# Altium schematic symbol library Microcontrollers.SchLib: 33 symbols (part 1 of 2)
Pins are listed as number, name and electrical type; pins without a type are passive.

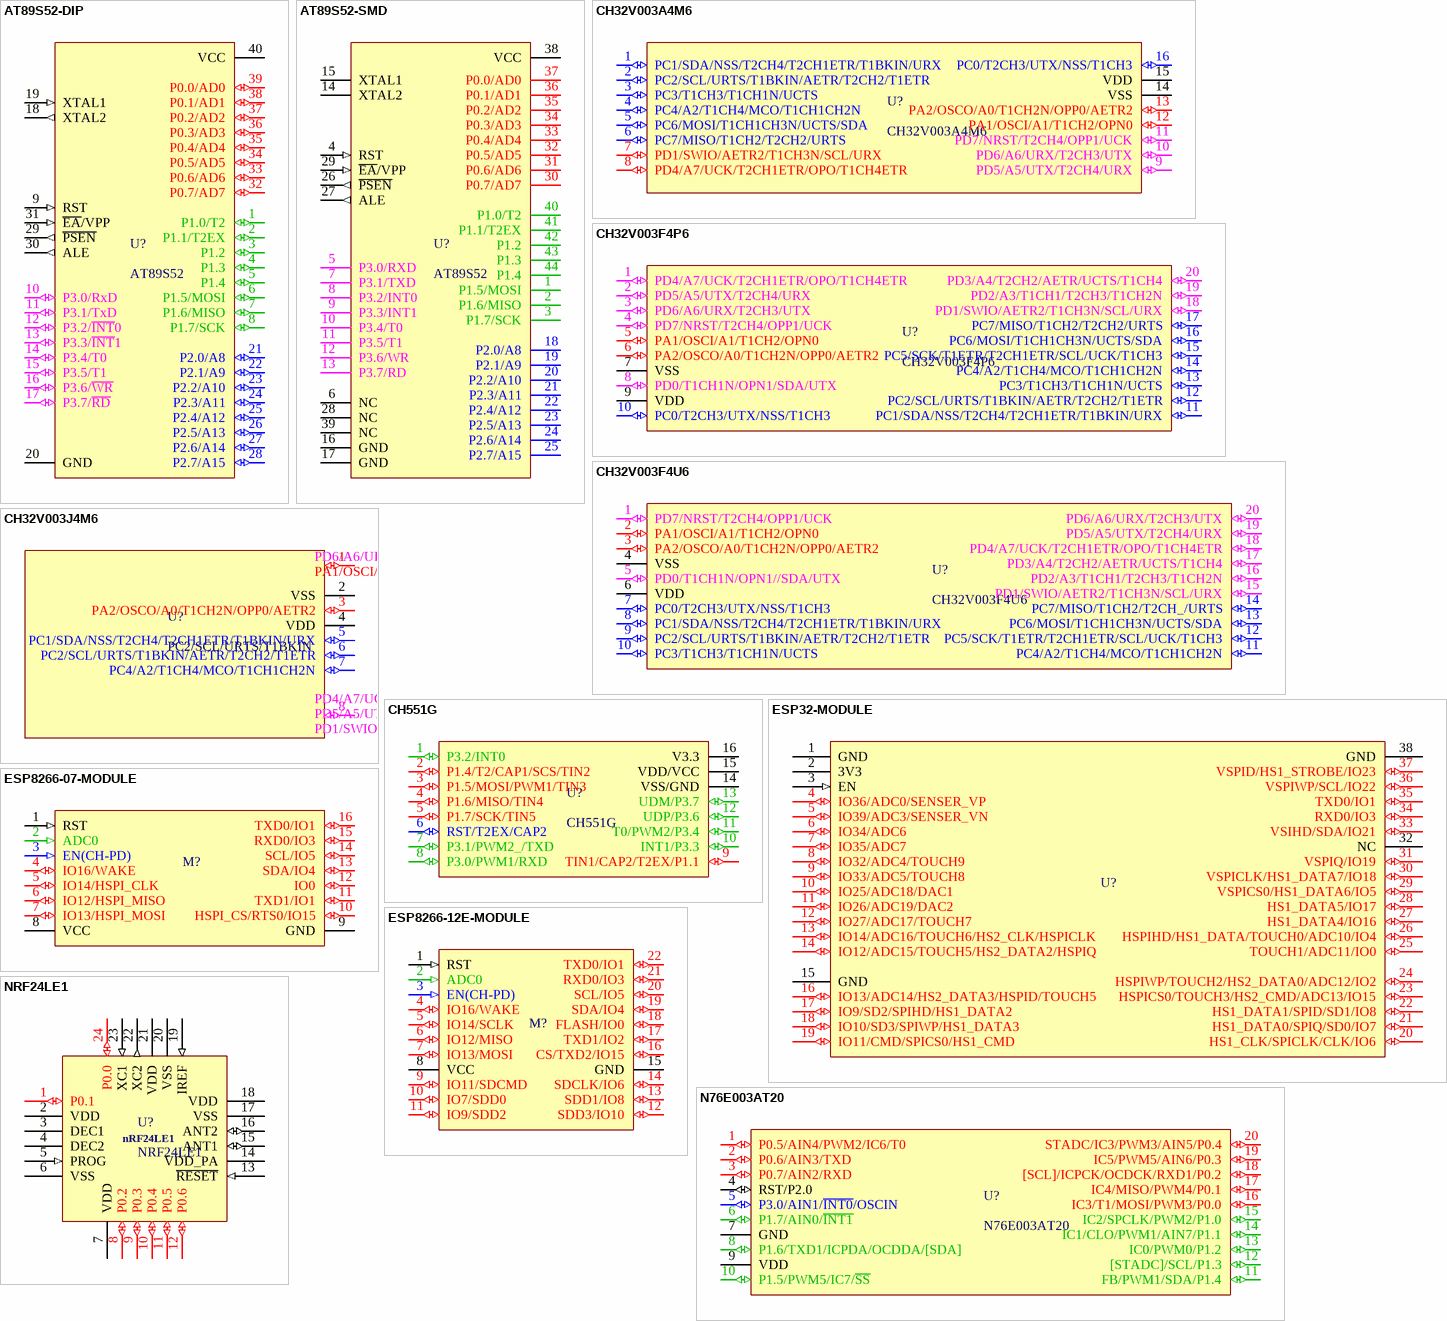
[diagram p0: symbols AT89S52-DIP to NRF24LE1]

## AT89S52-DIP
designator U?, comment AT89S52
footprint DIP-40
pins: 1 P1.0/T2 (io), 2 P1.1/T2EX (io), 3 P1.2 (io), 4 P1.3 (io), 5 P1.4 (io), 6 P1.5/MOSI (io), 7 P1.6/MISO (io), 8 P1.7/SCK (io), 9 RST (in), 10 P3.0/RxD (io), 11 P3.1/TxD (io), 12 P3.2/~{INT}0 (io), 13 P3.3/~{INT}1 (io), 14 P3.4/T0 (io), 15 P3.5/T1 (io), 16 P3.6/~{WR} (io), 17 P3.7/~{RD} (io), 18 XTAL2 (out), 19 XTAL1 (in), 20 GND (power), 21 P2.0/A8 (io), 22 P2.1/A9 (io), 23 P2.2/A10 (io), 24 P2.3/A11 (io), 25 P2.4/A12 (io), 26 P2.5/A13 (io), 27 P2.6/A14 (io), 28 P2.7/A15 (io), 29 ~{PSEN} (out), 30 ALE (out), 31 ~{EA}/VPP (in), 32 P0.7/AD7 (io), 33 P0.6/AD6 (io), 34 P0.5/AD5 (io), 35 P0.4/AD4 (io), 36 P0.3/AD3 (io), 37 P0.2/AD2 (io), 38 P0.1/AD1 (io), 39 P0.0/AD0 (io), 40 VCC (power)

## AT89S52-SMD
designator U?, comment AT89S52
footprint TQFP-44
pins: 1 P1.5/MOSI, 2 P1.6/MISO, 3 P1.7/SCK, 4 RST (in), 5 P3.0/RXD, 6 NC, 7 P3.1/TXD, 8 P3.2/INT0, 9 P3.3/INT1, 10 P3.4/T0, 11 P3.5/T1, 12 P3.6/WR, 13 P3.7/RD, 14 XTAL2, 15 XTAL1, 16 GND, 17 GND (power), 18 P2.0/A8, 19 P2.1/A9, 20 P2.2/A10, 21 P2.3/A11, 22 P2.4/A12, 23 P2.5/A13, 24 P2.6/A14, 25 P2.7/A15, 26 ~{PSEN} (out), 27 ALE (out), 28 NC, 29 ~{EA}/VPP (in), 30 P0.7/AD7, 31 P0.6/AD6, 32 P0.5/AD5, 33 P0.4/AD4, 34 P0.3/AD3, 35 P0.2/AD2, 36 P0.1/AD1, 37 P0.0/AD0, 38 VCC (power), 39 NC, 40 P1.0/T2, 41 P1.1/T2EX, 42 P1.2, 43 P1.3, 44 P1.4

## CH32V003A4M6
designator U?
footprint SOP-16
pins: 1 PC1/SDA/NSS/T2CH4/T2CH1ETR/T1BKIN/URX (io), 2 PC2/SCL/URTS/T1BKIN/AETR/T2CH2/T1ETR (io), 3 PC3/T1CH3/T1CH1N/UCTS (io), 4 PC4/A2/T1CH4/MCO/T1CH1CH2N (io), 5 PC6/MOSI/T1CH1CH3N/UCTS/SDA (io), 6 PC7/MISO/T1CH2/T2CH2/URTS (io), 7 PD1/SWIO/AETR2/T1CH3N/SCL/URX (io), 8 PD4/A7/UCK/T2CH1ETR/OPO/T1CH4ETR (io), 9 PD5/A5/UTX/T2CH4/URX (io), 10 PD6/A6/URX/T2CH3/UTX (io), 11 PD7/NRST/T2CH4/OPP1/UCK (io), 12 PA1/OSCI/A1/T1CH2/OPN0 (io), 13 PA2/OSCO/A0/T1CH2N/OPP0/AETR2 (io), 14 VSS (power), 15 VDD (power), 16 PC0/T2CH3/UTX/NSS/T1CH3 (io)

## CH32V003F4P6
designator U?
footprint SSOP-20
pins: 1 PD4/A7/UCK/T2CH1ETR/OPO/T1CH4ETR (io), 2 PD5/A5/UTX/T2CH4/URX (io), 3 PD6/A6/URX/T2CH3/UTX (io), 4 PD7/NRST/T2CH4/OPP1/UCK (io), 5 PA1/OSCI/A1/T1CH2/OPN0 (io), 6 PA2/OSCO/A0/T1CH2N/OPP0/AETR2 (io), 7 VSS (power), 8 PD0/T1CH1N/OPN1/SDA/UTX (io), 9 VDD (power), 10 PC0/T2CH3/UTX/NSS/T1CH3 (io), 11 PC1/SDA/NSS/T2CH4/T2CH1ETR/T1BKIN/URX (io), 12 PC2/SCL/URTS/T1BKIN/AETR/T2CH2/T1ETR (io), 13 PC3/T1CH3/T1CH1N/UCTS (io), 14 PC4/A2/T1CH4/MCO/T1CH1CH2N (io), 15 PC5/SCK/T1ETR/T2CH1ETR/SCL/UCK/T1CH3 (io), 16 PC6/MOSI/T1CH1CH3N/UCTS/SDA (io), 17 PC7/MISO/T1CH2/T2CH2/URTS (io), 18 PD1/SWIO/AETR2/T1CH3N/SCL/URX (io), 19 PD2/A3/T1CH1/T2CH3/T1CH2N (io), 20 PD3/A4/T2CH2/AETR/UCTS/T1CH4 (io)

## CH32V003F4U6
designator U?
pins: 1 PD7/NRST/T2CH4/OPP1/UCK (io), 2 PA1/OSCI/A1/T1CH2/OPN0 (io), 3 PA2/OSCO/A0/T1CH2N/OPP0/AETR2 (io), 4 VSS (power), 5 PD0/T1CH1N/OPN1//SDA/UTX (io), 6 VDD (power), 7 PC0/T2CH3/UTX/NSS/T1CH3 (io), 8 PC1/SDA/NSS/T2CH4/T2CH1ETR/T1BKIN/URX (io), 9 PC2/SCL/URTS/T1BKIN/AETR/T2CH2/T1ETR (io), 10 PC3/T1CH3/T1CH1N/UCTS (io), 11 PC4/A2/T1CH4/MCO/T1CH1CH2N (io), 12 PC5/SCK/T1ETR/T2CH1ETR/SCL/UCK/T1CH3 (io), 13 PC6/MOSI/T1CH1CH3N/UCTS/SDA (io), 14 PC7/MISO/T1CH2/T2CH_/URTS (io), 15 PD1/SWIO/AETR2/T1CH3N/SCL/URX (io), 16 PD2/A3/T1CH1/T2CH3/T1CH2N (io), 17 PD3/A4/T2CH2/AETR/UCTS/T1CH4 (io), 18 PD4/A7/UCK/T2CH1ETR/OPO/T1CH4ETR (io), 19 PD5/A5/UTX/T2CH4/URX (io), 20 PD6/A6/URX/T2CH3/UTX (io)

## CH32V003J4M6
designator U?, comment PC2/SCL/URTS/T1BKIN
footprint SOP-8
pins: 1 (io), 2 VSS (power), 3 PA2/OSCO/A0/T1CH2N/OPP0/AETR2 (io), 4 VDD (power), 5 PC1/SDA/NSS/T2CH4/T2CH1ETR/T1BKIN/URX (io), 6 PC2/SCL/URTS/T1BKIN/AETR/T2CH2/T1ETR (io), 7 PC4/A2/T1CH4/MCO/T1CH1CH2N (io), 8 (io)
text: PD6/A6/URX/T2CH3/UTX; PA1/OSCI/A1/T1CH2/OPN0; PD4/A7/UCK/T2CH1ETR/OPO/T1CH4ETR; PD5/A5/UTX/T2CH4/URX; PD1/SWIO/AETR2/T1CH3N/SCL/URX

## CH551G
designator U?
footprint SOP-16
pins: 1 P3.2/INT0 (io), 2 P1.4/T2/CAP1/SCS/TIN2 (io), 3 P1.5/MOSI/PWM1/TIN3 (io), 4 P1.6/MISO/TIN4 (io), 5 P1.7/SCK/TIN5  (io), 6 RST/T2EX/CAP2 (io), 7 P3.1/PWM2_/TXD (io), 8 P3.0/PWM1/RXD (io), 9 TIN1/CAP2/T2EX/P1.1 (io), 10 INT1/P3.3 (io), 11 T0/PWM2/P3.4 (io), 12 UDP/P3.6 (io), 13 UDM/P3.7 (io), 14 VSS/GND (power), 15 VDD/VCC (power), 16 V3.3 (power)

## ESP32-MODULE
designator U?, comment ESP32  (value not drawn)
footprint ESP32-MODULE
pins: 1 GND (power), 2 3V3 (power), 3 EN (in), 4 IO36/ADC0/SENSER_VP (io), 5 IO39/ADC3/SENSER_VN (io), 6 IO34/ADC6 (io), 7 IO35/ADC7 (io), 8 IO32/ADC4/TOUCH9 (io), 9 IO33/ADC5/TOUCH8 (io), 10 IO25/ADC18/DAC1 (io), 11 IO26/ADC19/DAC2 (io), 12 IO27/ADC17/TOUCH7 (io), 13 IO14/ADC16/TOUCH6/HS2_CLK/HSPICLK (io), 14 IO12/ADC15/TOUCH5/HS2_DATA2/HSPIQ (io), 15 GND (power), 16 IO13/ADC14/HS2_DATA3/HSPID/TOUCH5 (io), 17 IO9/SD2/SPIHD/HS1_DATA2 (io), 18 IO10/SD3/SPIWP/HS1_DATA3 (io), 19 IO11/CMD/SPICS0/HS1_CMD (io), 20 HS1_CLK/SPICLK/CLK/IO6 (io), 21 HS1_DATA0/SPIQ/SD0/IO7 (io), 22 HS1_DATA1/SPID/SD1/IO8 (io), 23 HSPICS0/TOUCH3/HS2_CMD/ADC13/IO15 (io), 24 HSPIWP/TOUCH2/HS2_DATA0/ADC12/IO2 (io), 25 TOUCH1/ADC11/IO0 (io), 26 HSPIHD/HS1_DATA/TOUCH0/ADC10/IO4 (io), 27 HS1_DATA4/IO16 (io), 28 HS1_DATA5/IO17 (io), 29 VSPICS0/HS1_DATA6/IO5 (io), 30 VSPICLK/HS1_DATA7/IO18 (io), 31 VSPIQ/IO19 (io), 32 NC, 33 VSIHD/SDA/IO21 (io), 34 RXD0/IO3 (io), 35 TXD0/IO1 (io), 36 VSPIWP/SCL/IO22 (io), 37 VSPID/HS1_STROBE/IO23 (io), 38 GND (power)

## ESP8266-07-MODULE
designator M?, comment ESP8266-07  (value not drawn)
footprint ESP8266-07-MODULE
pins: 1 RST (in), 2 ADC0 (in), 3 EN(CH-PD) (in), 4 IO16/WAKE (io), 5 IO14/HSPI_CLK (io), 6 IO12/HSPI_MISO (io), 7 IO13/HSPI_MOSI (io), 8 VCC (power), 9 GND (power), 10 HSPI_CS/RTS0/IO15 (io), 11 TXD1/IO1 (io), 12 IO0 (io), 13 SDA/IO4 (io), 14 SCL/IO5 (io), 15 RXD0/IO3 (io), 16 TXD0/IO1 (io)

## ESP8266-12E-MODULE
designator M?, comment ESP8266-12E  (value not drawn)
footprint ESP8266-12E-MODULE
pins: 1 RST (in), 2 ADC0 (in), 3 EN(CH-PD) (in), 4 IO16/WAKE (io), 5 IO14/SCLK (io), 6 IO12/MISO (io), 7 IO13/MOSI (io), 8 VCC (power), 9 IO11/SDCMD (io), 10 IO7/SDD0 (io), 11 IO9/SDD2 (io), 12 SDD3/IO10 (io), 13 SDD1/IO8 (io), 14 SDCLK/IO6 (io), 15 GND (power), 16 CS/TXD2/IO15 (io), 17 TXD1/IO2 (io), 18 FLASH/IO0 (io), 19 SDA/IO4 (io), 20 SCL/IO5 (io), 21 RXD0/IO3 (io), 22 TXD0/IO1 (io)

## N76E003AT20
designator U?
Mounting_Type: Surface_Mount; SAPO_CODE: 530680; SAPO_NAME: Nuvoton N76E003AT20 SSOP20; Value: N76E003AT20
footprint SSOP-20
pins: 1 P0.5/AIN4/PWM2/IC6/T0 (io), 2 P0.6/AIN3/TXD (io), 3 P0.7/AIN2/RXD (io), 4 RST/P2.0 (io), 5 P3.0/AIN1/~{INT0}/OSCIN (io), 6 P1.7/AIN0/~{INT1} (io), 7 GND (power), 8 P1.6/TXD1/ICPDA/OCDDA/[SDA] (io), 9 VDD (power), 10 P1.5/PWM5/IC7/~{SS} (io), 11 FB/PWM1/SDA/P1.4 (io), 12 [STADC]/SCL/P1.3 (io), 13 IC0/PWM0/P1.2 (io), 14 IC1/CLO/PWM1/AIN7/P1.1 (io), 15 IC2/SPCLK/PWM2/P1.0 (io), 16 IC3/T1/MOSI/PWM3/P0.0 (io), 17 IC4/MISO/PWM4/P0.1 (io), 18 [SCL]/ICPCK/OCDCK/RXD1/P0.2 (io), 19 IC5/PWM5/AIN6/P0.3 (io), 20 STADC/IC3/PWM3/AIN5/P0.4 (io)

## NRF24LE1
designator U?
footprint QFN-24
pins: 1 P0.1 (io), 2 VDD (power), 3 DEC1, 4 DEC2, 5 PROG (in), 6 VSS (power), 7 VDD (power), 8 P0.2 (io), 9 P0.3 (io), 10 P0.4 (io), 11 P0.5 (io), 12 P0.6 (io), 13 ~{RESET} (in), 14 VDD_PA (power), 15 ANT1 (io), 16 ANT2 (io), 17 VSS (power), 18 VDD (power), 19 IREF (in), 20 VSS, 21 VDD (power), 22 XC2 (out), 23 XC1 (in), 24 P0.0 (io)
text: nRF24LE1

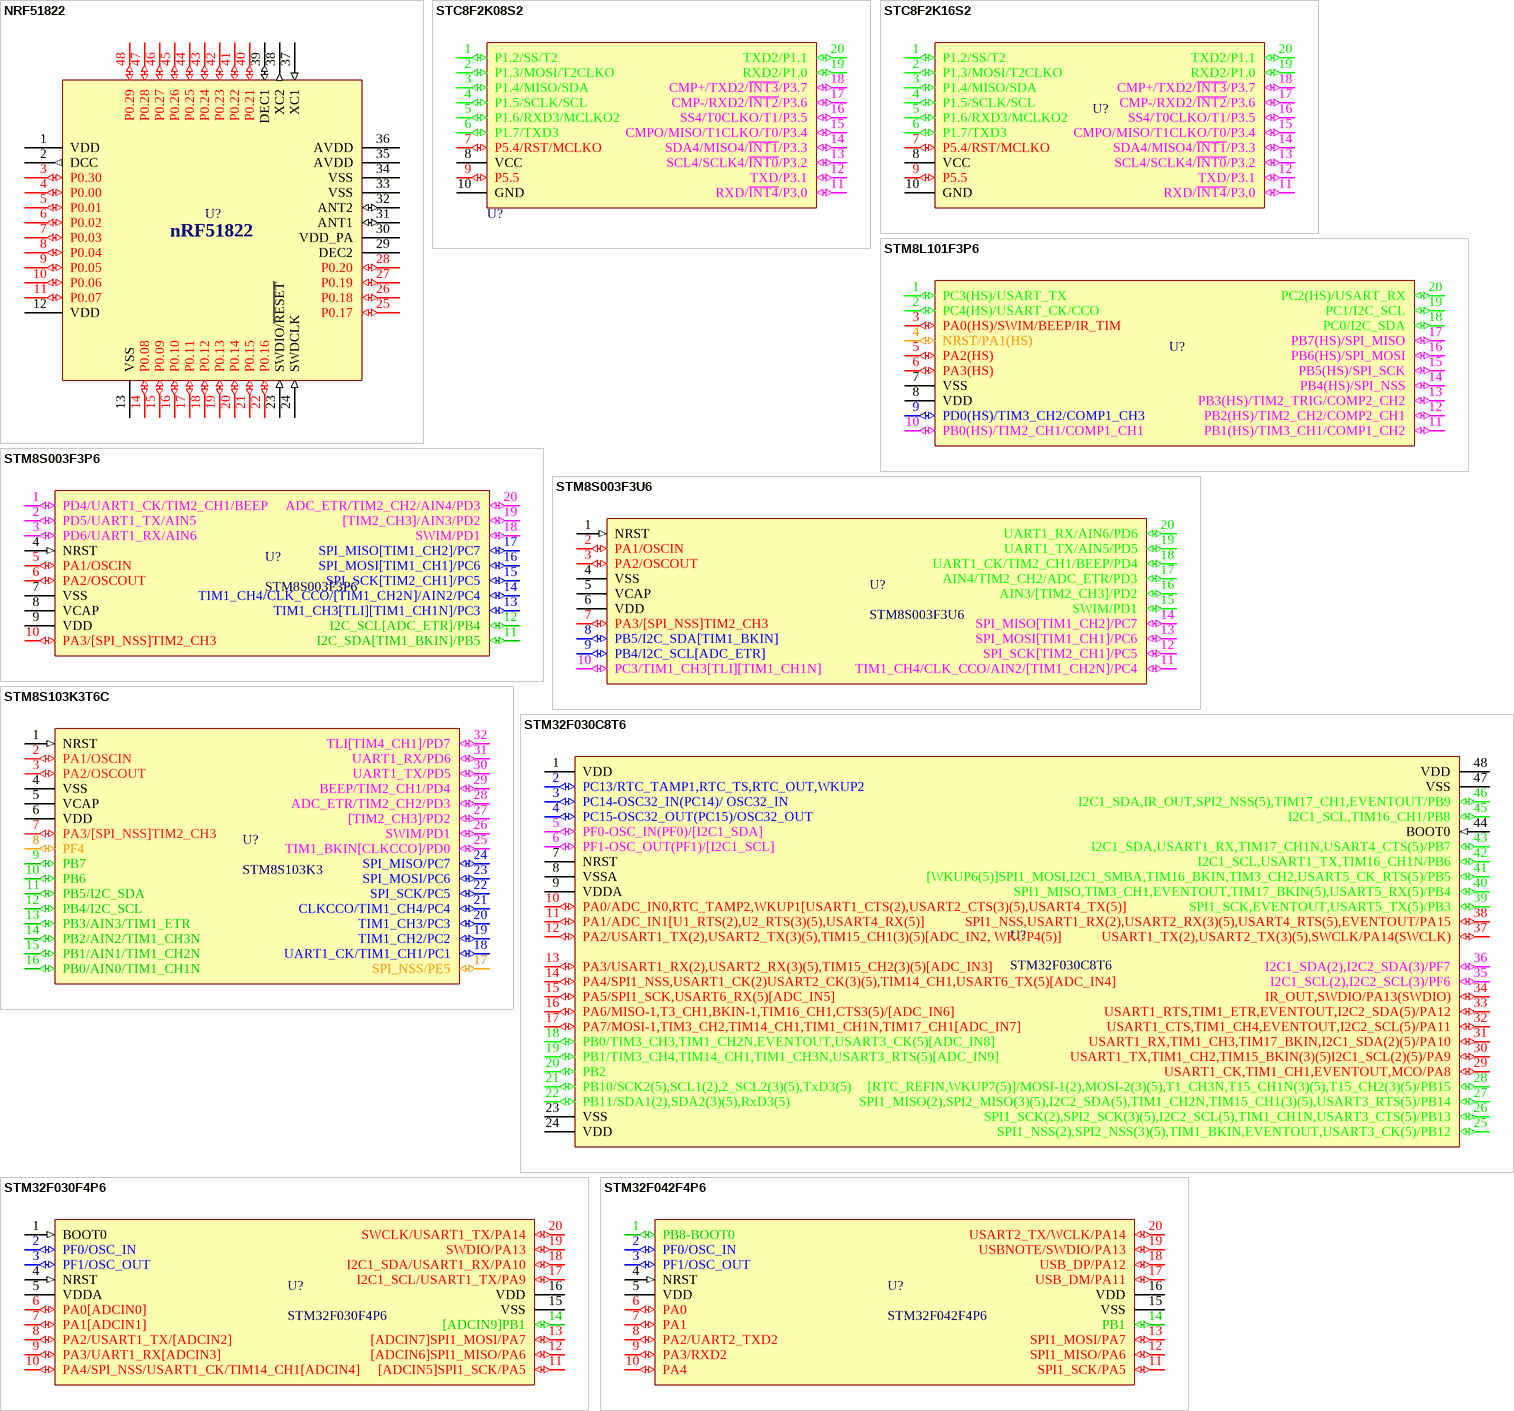
[diagram p1: symbols NRF51822 to STM32F042F4P6]

## NRF51822
designator U?  (value not drawn)
footprint QFN-48
pins: 1 VDD (power), 2 DCC (out), 3 P0.30 (io), 4 P0.00 (io), 5 P0.01 (io), 6 P0.02 (io), 7 P0.03 (io), 8 P0.04 (io), 9 P0.05 (io), 10 P0.06 (io), 11 P0.07 (io), 12 VDD (power), 13 VSS, 14 P0.08 (io), 15 P0.09 (io), 16 P0.10 (io), 17 P0.11 (io), 18 P0.12 (io), 19 P0.13 (io), 20 P0.14 (io), 21 P0.15 (io), 22 P0.16 (io), 23 SWDIO/~{RESET} (in), 24 SWDCLK (in), 25 P0.17 (io), 26 P0.18 (io), 27 P0.19 (io), 28 P0.20 (io), 29 DEC2, 30 VDD_PA (power), 31 ANT1 (io), 32 ANT2 (io), 33 VSS (power), 34 VSS (power), 35 AVDD (power), 36 AVDD (power), 37 XC1 (in), 38 XC2 (out), 39 DEC1 (io), 40 P0.21 (io), 41 P0.22 (io), 42 P0.23 (io), 43 P0.24 (io), 44 P0.25 (io), 45 P0.26 (io), 46 P0.27 (io), 47 P0.28 (io), 48 P0.29 (io)
text: nRF51822

## STC8F2K08S2
designator U?  (value not drawn)
Mounting_Type: Surface_Mount; Price: *; Processing Cost: *; SAPO_NAME: *; SAPO_CODE: *; Value: STC8F2K08S2
footprint SSOP-20
pins: 1 P1.2/SS/T2 (io) "GND", 2 P1.3/MOSI/T2CLKO (io) "GND", 3 P1.4/MISO/SDA (io) "GND", 4 P1.5/SCLK/SCL (io) "GND", 5 P1.6/RXD3/MCLKO2 (io) "GND", 6 P1.7/TXD3 (io) "GND", 7 P5.4/RST/MCLKO (io) "GND", 8 VCC (power) "GND", 9 P5.5 (io) "GND", 10 GND (power), 11 RXD/~{INT4}/P3.0 (io) "GND", 12 TXD/P3.1 (io) "GND", 13 SCL4/SCLK4/~{INT0}/P3.2 (io) "GND", 14 SDA4/MISO4/~{INT1}/P3.3 (io) "GND", 15 CMPO/MISO/T1CLKO/T0/P3.4 (io) "GND", 16 SS4/T0CLKO/T1/P3.5 (io) "GND", 17 CMP-/RXD2/~{INT2}/P3.6 (io) "GND", 18 CMP+/TXD2/~{INT3}/P3.7 (io) "GND", 19 RXD2/P1.0 (io) "GND", 20 TXD2/P1.1 (io) "GND"

## STC8F2K16S2
designator U?  (value not drawn)
footprint SSOP-20
pins: 1 P1.2/SS/T2 (io) "GND", 2 P1.3/MOSI/T2CLKO (io) "GND", 3 P1.4/MISO/SDA (io) "GND", 4 P1.5/SCLK/SCL (io) "GND", 5 P1.6/RXD3/MCLKO2 (io) "GND", 6 P1.7/TXD3 (io) "GND", 7 P5.4/RST/MCLKO (io) "GND", 8 VCC (power) "GND", 9 P5.5 (io) "GND", 10 GND (power), 11 RXD/~{INT4}/P3.0 (io) "GND", 12 TXD/P3.1 (io) "GND", 13 SCL4/SCLK4/~{INT0}/P3.2 (io) "GND", 14 SDA4/MISO4/~{INT1}/P3.3 (io) "GND", 15 CMPO/MISO/T1CLKO/T0/P3.4 (io) "GND", 16 SS4/T0CLKO/T1/P3.5 (io) "GND", 17 CMP-/RXD2/~{INT2}/P3.6 (io) "GND", 18 CMP+/TXD2/~{INT3}/P3.7 (io) "GND", 19 RXD2/P1.0 (io) "GND", 20 TXD2/P1.1 (io) "GND"

## STM8L101F3P6
designator U?, comment STM8S101F3P6  (value not drawn)
footprint SSOP-20
pins: 1 PC3(HS)/USART_TX (io), 2 PC4(HS)/USART_CK/CCO (io), 3 PA0(HS)/SWIM/BEEP/IR_TIM (io), 4 NRST/PA1(HS) (io), 5 PA2(HS) (io), 6 PA3(HS) (io), 7 VSS (power), 8 VDD (power), 9 PD0(HS)/TIM3_CH2/COMP1_CH3 (io), 10 PB0(HS)/TIM2_CH1/COMP1_CH1 (io), 11 PB1(HS)/TIM3_CH1/COMP1_CH2 (io), 12 PB2(HS)/TIM2_CH2/COMP2_CH1 (io), 13 PB3(HS)/TIM2_TRIG/COMP2_CH2 (io), 14 PB4(HS)/SPI_NSS (io), 15 PB5(HS)/SPI_SCK (io), 16 PB6(HS)/SPI_MOSI (io), 17 PB7(HS)/SPI_MISO (io), 18 PC0/I2C_SDA (io), 19 PC1/I2C_SCL (io), 20 PC2(HS)/USART_RX (io)

## STM8S003F3P6
designator U?
Mounting_Type: Surface_Mount; SAPO_CODE: 530490; SAPO_NAME: STM8S003F3P6 TSSOP20; Value: STM8S003F3P6
footprint SSOP-20
pins: 1 PD4/UART1_CK/TIM2_CH1/BEEP (io), 2 PD5/UART1_TX/AIN5 (io), 3 PD6/UART1_RX/AIN6 (io), 4 NRST (in), 5 PA1/OSCIN (io), 6 PA2/OSCOUT (io), 7 VSS (power), 8 VCAP (power), 9 VDD (power), 10 PA3/[SPI_NSS]TIM2_CH3 (io), 11 I2C_SDA[TIM1_BKIN]/PB5 (io), 12 I2C_SCL[ADC_ETR]/PB4 (io), 13 TIM1_CH3[TLI][TIM1_CH1N]/PC3 (io), 14 TIM1_CH4/CLK_CCO/[TIM1_CH2N]/AIN2/PC4 (io), 15 SPI_SCK[TIM2_CH1]/PC5 (io), 16 SPI_MOSI[TIM1_CH1]/PC6 (io), 17 SPI_MISO[TIM1_CH2]/PC7 (io), 18 SWIM/PD1 (io), 19 [TIM2_CH3]/AIN3/PD2 (io), 20 ADC_ETR/TIM2_CH2/AIN4/PD3 (io)

## STM8S003F3U6
designator U?
Mounting_Type: Surface_Mount; SAPO_NAME: STM8S003F3U6 QFN20; SAPO_CODE: 530520; Value: STM8S003F3
footprint UFQFPN-20
pins: 1 NRST (in), 2 PA1/OSCIN (io), 3 PA2/OSCOUT (io), 4 VSS (power), 5 VCAP, 6 VDD (power), 7 PA3/[SPI_NSS]TIM2_CH3 (io), 8 PB5/I2C_SDA[TIM1_BKIN] (io), 9 PB4/I2C_SCL[ADC_ETR] (io), 10 PC3/TIM1_CH3[TLI][TIM1_CH1N] (io), 11 TIM1_CH4/CLK_CCO/AIN2/[TIM1_CH2N]/PC4 (io), 12 SPI_SCK[TIM2_CH1]/PC5 (io), 13 SPI_MOSI[TIM1_CH1]/PC6 (io), 14 SPI_MISO[TIM1_CH2]/PC7 (io), 15 SWIM/PD1 (io), 16 AIN3/[TIM2_CH3]/PD2 (io), 17 AIN4/TIM2_CH2/ADC_ETR/PD3 (io), 18 UART1_CK/TIM2_CH1/BEEP/PD4 (io), 19 UART1_TX/AIN5/PD5 (io), 20 UART1_RX/AIN6/PD6 (io)

## STM8S103K3T6C
designator U?, comment STM8S103K3
footprint LQFP-32
pins: 1 NRST (in), 2 PA1/OSCIN (io), 3 PA2/OSCOUT (io), 4 VSS (power), 5 VCAP, 6 VDD (power), 7 PA3/[SPI_NSS]TIM2_CH3 (io), 8 PF4 (io), 9 PB7 (io), 10 PB6 (io), 11 PB5/I2C_SDA (io), 12 PB4/I2C_SCL (io), 13 PB3/AIN3/TIM1_ETR (io), 14 PB2/AIN2/TIM1_CH3N (io), 15 PB1/AIN1/TIM1_CH2N (io), 16 PB0/AIN0/TIM1_CH1N (io), 17 SPI_NSS/PE5 (io), 18 UART1_CK/TIM1_CH1/PC1 (io), 19 TIM1_CH2/PC2 (io), 20 TIM1_CH3/PC3 (io), 21 CLKCCO/TIM1_CH4/PC4 (io), 22 SPI_SCK/PC5 (io), 23 SPI_MOSI/PC6 (io), 24 SPI_MISO/PC7 (io), 25 TIM1_BKIN[CLKCCO]/PD0 (io), 26 SWIM/PD1 (io), 27 [TIM2_CH3]/PD2 (io), 28 ADC_ETR/TIM2_CH2/PD3 (io), 29 BEEP/TIM2_CH1/PD4 (io), 30 UART1_TX/PD5 (io), 31 UART1_RX/PD6 (io), 32 TLI[TIM4_CH1]/PD7 (io)

## STM32F030C8T6
designator U?
Mounting_Type: Surface_Mount; Processing Cost: *; Price: *; SAPO_CODE: *; SAPO_NAME: *; Value: STM32F030C8T6
footprint LQFP-48 (for STM8S105C6T6)
pins: 1 VDD (power), 2 PC13/RTC_TAMP1,RTC_TS,RTC_OUT,WKUP2 (io), 3 PC14-OSC32_IN(PC14)/ OSC32_IN (io), 4 PC15-OSC32_OUT(PC15)/OSC32_OUT (io), 5 PF0-OSC_IN(PF0)/[I2C1_SDA] (io), 6 PF1-OSC_OUT(PF1)/[I2C1_SCL] (io), 7 NRST (power), 8 VSSA (power), 9 VDDA (power), 10 PA0/ADC_IN0,RTC_TAMP2,WKUP1[USART1_CTS(2),USART2_CTS(3)(5),USART4_TX(5)] (io), 11 PA1/ADC_IN1[U1_RTS(2),U2_RTS(3)(5),USART4_RX(5)] (io), 12 PA2/USART1_TX(2),USART2_TX(3)(5),TIM15_CH1(3)(5)[ADC_IN2, WKUP4(5)] (io), 13 PA3/USART1_RX(2),USART2_RX(3)(5),TIM15_CH2(3)(5)[ADC_IN3] (io), 14 PA4/SPI1_NSS,USART1_CK(2)USART2_CK(3)(5),TIM14_CH1,USART6_TX(5)[ADC_IN4] (io), 15 PA5/SPI1_SCK,USART6_RX(5)[ADC_IN5] (io), 16 PA6/MISO-1,T3_CH1,BKIN-1,TIM16_CH1,CTS3(5)/[ADC_IN6] (io), 17 PA7/MOSI-1,TIM3_CH2,TIM14_CH1,TIM1_CH1N,TIM17_CH1[ADC_IN7] (io), 18 PB0/TIM3_CH3,TIM1_CH2N,EVENTOUT,USART3_CK(5)[ADC_IN8] (io), 19 PB1/TIM3_CH4,TIM14_CH1,TIM1_CH3N,USART3_RTS(5)[ADC_IN9] (io), 20 PB2 (io), 21 PB10/SCK2(5),SCL1(2),2_SCL2(3)(5),TxD3(5) (io), 22 PB11/SDA1(2),SDA2(3)(5),RxD3(5) (io), 23 VSS (power), 24 VDD (power), 25 SPI1_NSS(2),SPI2_NSS(3)(5),TIM1_BKIN,EVENTOUT,USART3_CK(5)/PB12 (io), 26 SPI1_SCK(2),SPI2_SCK(3)(5),I2C2_SCL(5),TIM1_CH1N,USART3_CTS(5)/PB13 (io), 27 SPI1_MISO(2),SPI2_MISO(3)(5),I2C2_SDA(5),TIM1_CH2N,TIM15_CH1(3)(5),USART3_RTS(5)/PB14 (io), 28 [RTC_REFIN,WKUP7(5)]/MOSI-1(2),MOSI-2(3)(5),T1_CH3N,T15_CH1N(3)(5),T15_CH2(3)(5)/PB15 (io), 29 USART1_CK,TIM1_CH1,EVENTOUT,MCO/PA8 (io) "Ground (0V)", 30 USART1_TX,TIM1_CH2,TIM15_BKIN(3)(5)I2C1_SCL(2)(5)/PA9 (io) "Ground (0V)", 31 USART1_RX,TIM1_CH3,TIM17_BKIN,I2C1_SDA(2)(5)/PA10 (io) "Ground (0V)", 32 USART1_CTS,TIM1_CH4,EVENTOUT,I2C2_SCL(5)/PA11 (io) "Ground (0V)", 33 USART1_RTS,TIM1_ETR,EVENTOUT,I2C2_SDA(5)/PA12 (io) "Ground (0V)", 34 IR_OUT,SWDIO/PA13(SWDIO) (io) "Ground (0V)", 35 I2C1_SCL(2),I2C2_SCL(3)/PF6 (io) "Ground (0V)", 36 I2C1_SDA(2),I2C2_SDA(3)/PF7 (io) "Ground (0V)", 37 USART1_TX(2),USART2_TX(3)(5),SWCLK/PA14(SWCLK) (io) "Ground (0V)", 38 SPI1_NSS,USART1_RX(2),USART2_RX(3)(5),USART4_RTS(5),EVENTOUT/PA15 (io) "Ground (0V)", 39 SPI1_SCK,EVENTOUT,USART5_TX(5)/PB3 (io) "Ground (0V)", 40 SPI1_MISO,TIM3_CH1,EVENTOUT,TIM17_BKIN(5),USART5_RX(5)/PB4 (io) "Ground (0V)", 41 [WKUP6(5)]SPI1_MOSI,I2C1_SMBA,TIM16_BKIN,TIM3_CH2,USART5_CK_RTS(5)/PB5 (io) "Ground (0V)", 42 I2C1_SCL,USART1_TX,TIM16_CH1N/PB6 (io) "Ground (0V)", 43 I2C1_SDA,USART1_RX,TIM17_CH1N,USART4_CTS(5)/PB7 (io) "Ground (0V)", 44 BOOT0 (in) "Ground (0V)", 45 I2C1_SCL,TIM16_CH1/PB8 (io) "Ground (0V)", 46 I2C1_SDA,IR_OUT,SPI2_NSS(5),TIM17_CH1,EVENTOUT/PB9 (io) "Ground (0V)", 47 VSS (power) "Ground (0V)", 48 VDD (power) "Ground (0V)"

## STM32F030F4P6
designator U?
Mounting_Type: Surface_Mount; SAPO_CODE: 530460; SAPO_NAME: STM32F030F4P6 TSSOP20; Value: STM32F030F4P6 TSSOP20; Price: 16000; ComponentLink1Description: linhkienviet; ComponentLink1URL: http://linhkienviet.vn/stm32f030f4p6-tssop20
footprint SSOP-20
pins: 1 BOOT0 (in), 2 PF0/OSC_IN (io), 3 PF1/OSC_OUT (io), 4 NRST (in), 5 VDDA (power), 6 PA0[ADCIN0] (io), 7 PA1[ADCIN1] (io), 8 PA2/USART1_TX/[ADCIN2] (io) "USART1_TX/PA2", 9 PA3/UART1_RX[ADCIN3] (io) "USART2_RX/TIM2_CH4/TSC_G1_IO4", 10 PA4/SPI_NSS/USART1_CK/TIM14_CH1[ADCIN4] (io), 11 [ADCIN5]SPI1_SCK/PA5 (io), 12 [ADCIN6]SPI1_MISO/PA6 (io), 13 [ADCIN7]SPI1_MOSI/PA7 (io), 14 [ADCIN9]PB1 (io) "GND", 15 VSS (power) "GND", 16 VDD (power) "GND", 17 I2C1_SCL/USART1_TX/PA9 (io) "GND", 18 I2C1_SDA/USART1_RX/PA10 (io) "GND", 19 SWDIO/PA13 (io) "GND", 20 SWCLK/USART1_TX/PA14 (io) "USART2_TX/SWCLK"

## STM32F042F4P6
designator U?
SAPO_NAME: STM32F042F4P6 TSSOP20; SAPO_CODE: 530660; Mounting_Type: Surface_Mount; Value: STM32F042F4P6
footprint SSOP-20
pins: 1 PB8-BOOT0 (io), 2 PF0/OSC_IN (io), 3 PF1/OSC_OUT (io), 4 NRST (in), 5 VDD (power), 6 PA0 (io), 7 PA1 (io), 8 PA2/UART2_TXD2 (io), 9 PA3/RXD2 (io), 10 PA4 (io), 11 SPI1_SCK/PA5 (io), 12 SPI1_MISO/PA6 (io), 13 SPI1_MOSI/PA7 (io), 14 PB1 (io), 15 VSS (power), 16 VDD (power), 17 USB_DM/PA11 (io), 18 USB_DP/PA12 (io), 19 USBNOTE/SWDIO/PA13 (io), 20 USART2_TX/WCLK/PA14 (io)

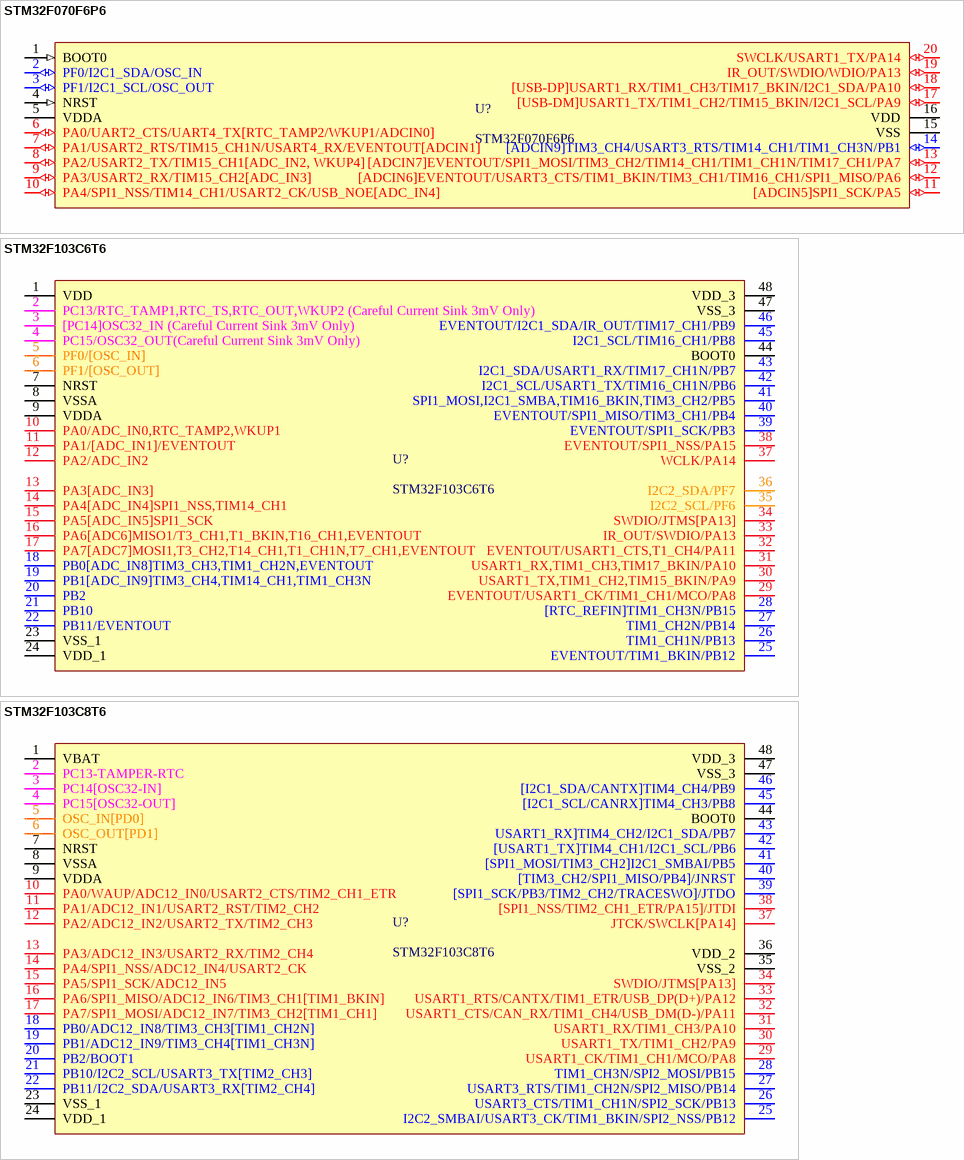
[diagram p2: symbols STM32F070F6P6 to STM32F103C8T6]

## STM32F070F6P6
designator U?
Mounting_Type: Surface_Mount; SAPO_CODE: 530720; SAPO_NAME: STM32F070F6P6 TSSOP20 (USB); Value: STM32F070F6 TSSOP20; Price: 70000; ComponentLink1Description: linhkienviet; ComponentLink1URL: http://linhkienviet.vn/stm32f030f4p6-tssop20
footprint SSOP-20
pins: 1 BOOT0 (in), 2 PF0/I2C1_SDA/OSC_IN (io), 3 PF1/I2C1_SCL/OSC_OUT (io), 4 NRST (in), 5 VDDA (power), 6 PA0/UART2_CTS/UART4_TX[RTC_TAMP2/WKUP1/ADCIN0] (io), 7 PA1/USART2_RTS/TIM15_CH1N/USART4_RX/EVENTOUT[ADCIN1] (io), 8 PA2/USART2_TX/TIM15_CH1[ADC_IN2, WKUP4] (io), 9 PA3/USART2_RX/TIM15_CH2[ADC_IN3] (io), 10 PA4/SPI1_NSS/TIM14_CH1/USART2_CK/USB_NOE[ADC_IN4] (io), 11 [ADCIN5]SPI1_SCK/PA5 (io), 12 [ADCIN6]EVENTOUT/USART3_CTS/TIM1_BKIN/TIM3_CH1/TIM16_CH1/SPI1_MISO/PA6 (io), 13 [ADCIN7]EVENTOUT/SPI1_MOSI/TIM3_CH2/TIM14_CH1/TIM1_CH1N/TIM17_CH1/PA7 (io), 14 [ADCIN9]TIM3_CH4/USART3_RTS/TIM14_CH1/TIM1_CH3N/PB1 (io), 15 VSS (power), 16 VDD (power), 17 [USB-DM]USART1_TX/TIM1_CH2/TIM15_BKIN/I2C1_SCL/PA9 (io), 18 [USB-DP]USART1_RX/TIM1_CH3/TIM17_BKIN/I2C1_SDA/PA10 (io), 19 IR_OUT/SWDIO/WDIO/PA13 (io), 20 SWCLK/USART1_TX/PA14 (io)

## STM32F103C6T6
designator U?
SAPO_NAME: STM32F103C6T6 LQFP48; SAPO_CODE: 530710; Mounting_Type: Surface_Mount; Value: STM32F103C6T6 LQFP48; Price: 38000; ComponentLink1Description: Datasheet; ComponentLink1URL: https://www.st.com/resource/en/datasheet/stm32f103c6.pdf
footprint LQFP-48 (for STM8S105C6T6)
pins: 1 VDD (power), 2 PC13/RTC_TAMP1,RTC_TS,RTC_OUT,WKUP2 (Careful Current Sink 3mV Only) (power), 3 [PC14]OSC32_IN (Careful Current Sink 3mV Only) (power), 4 PC15/OSC32_OUT(Careful Current Sink 3mV Only) (power), 5 PF0/[OSC_IN] (power), 6 PF1/[OSC_OUT] (power), 7 NRST (power), 8 VSSA (power), 9 VDDA (power), 10 PA0/ADC_IN0,RTC_TAMP2,WKUP1 (power), 11 PA1/[ADC_IN1]/EVENTOUT (power), 12 PA2/ADC_IN2 (power), 13 PA3[ADC_IN3] (power), 14 PA4[ADC_IN4]SPI1_NSS,TIM14_CH1 (power), 15 PA5[ADC_IN5]SPI1_SCK (power), 16 PA6[ADC6]MISO1/T3_CH1,T1_BKIN,T16_CH1,EVENTOUT (power), 17 PA7[ADC7]MOSI1,T3_CH2,T14_CH1,T1_CH1N,T7_CH1,EVENTOUT (power), 18 PB0[ADC_IN8]TIM3_CH3,TIM1_CH2N,EVENTOUT (power), 19 PB1[ADC_IN9]TIM3_CH4,TIM14_CH1,TIM1_CH3N (power), 20 PB2 (power), 21 PB10 (power), 22 PB11/EVENTOUT (power), 23 VSS_1 (power), 24 VDD_1 (power), 25 EVENTOUT/TIM1_BKIN/PB12 (power), 26 TIM1_CH1N/PB13 (power), 27 TIM1_CH2N/PB14 (power), 28 [RTC_REFIN]TIM1_CH3N/PB15 (power), 29 EVENTOUT/USART1_CK/TIM1_CH1/MCO/PA8 (power), 30 USART1_TX,TIM1_CH2,TIM15_BKIN/PA9 (power), 31 USART1_RX,TIM1_CH3,TIM17_BKIN/PA10 (power), 32 EVENTOUT/USART1_CTS,T1_CH4/PA11 (power), 33 IR_OUT/SWDIO/PA13 (power), 34 SWDIO/JTMS[PA13] (power), 35 I2C2_SCL/PF6 (power), 36 I2C2_SDA/PF7 (power), 37 WCLK/PA14 (power), 38 EVENTOUT/SPI1_NSS/PA15 (power), 39 EVENTOUT/SPI1_SCK/PB3 (power), 40 EVENTOUT/SPI1_MISO/TIM3_CH1/PB4 (power), 41 SPI1_MOSI,I2C1_SMBA,TIM16_BKIN,TIM3_CH2/PB5 (power), 42 I2C1_SCL/USART1_TX/TIM16_CH1N/PB6 (power), 43 I2C1_SDA/USART1_RX/TIM17_CH1N/PB7 (power), 44 BOOT0 (power), 45 I2C1_SCL/TIM16_CH1/PB8 (power), 46 EVENTOUT/I2C1_SDA/IR_OUT/TIM17_CH1/PB9 (power), 47 VSS_3 (power), 48 VDD_3 (power)

## STM32F103C8T6
designator U?
SAPO_NAME: STM32F103C8T6 LQFP48; SAPO_CODE: 530360; Mounting_Type: Surface_Mount; Value: STM32F103C8T6 LQFP48; Price: 40000; ComponentLink1Description: Datasheet; ComponentLink1URL: https://www.st.com/resource/en/datasheet/stm32f103c8.pdf
footprint LQFP-48 (for STM8S105C6T6)
pins: 1 VBAT (power), 2 PC13-TAMPER-RTC (power), 3 PC14[OSC32-IN] (power), 4 PC15[OSC32-OUT] (power), 5 OSC_IN[PD0] (power), 6 OSC_OUT[PD1] (power), 7 NRST (power), 8 VSSA (power), 9 VDDA (power), 10 PA0/WAUP/ADC12_IN0/USART2_CTS/TIM2_CH1_ETR (power), 11 PA1/ADC12_IN1/USART2_RST/TIM2_CH2 (power), 12 PA2/ADC12_IN2/USART2_TX/TIM2_CH3 (power), 13 PA3/ADC12_IN3/USART2_RX/TIM2_CH4 (power), 14 PA4/SPI1_NSS/ADC12_IN4/USART2_CK (power), 15 PA5/SPI1_SCK/ADC12_IN5 (power), 16 PA6/SPI1_MISO/ADC12_IN6/TIM3_CH1[TIM1_BKIN] (power), 17 PA7/SPI1_MOSI/ADC12_IN7/TIM3_CH2[TIM1_CH1] (power), 18 PB0/ADC12_IN8/TIM3_CH3[TIM1_CH2N] (power), 19 PB1/ADC12_IN9/TIM3_CH4[TIM1_CH3N] (power), 20 PB2/BOOT1 (power), 21 PB10/I2C2_SCL/USART3_TX[TIM2_CH3] (power), 22 PB11/I2C2_SDA/USART3_RX[TIM2_CH4] (power), 23 VSS_1 (power), 24 VDD_1 (power), 25 I2C2_SMBAI/USART3_CK/TIM1_BKIN/SPI2_NSS/PB12 (power), 26 USART3_CTS/TIM1_CH1N/SPI2_SCK/PB13 (power), 27 USART3_RTS/TIM1_CH2N/SPI2_MISO/PB14 (power), 28 TIM1_CH3N/SPI2_MOSI/PB15 (power), 29 USART1_CK/TIM1_CH1/MCO/PA8 (power), 30 USART1_TX/TIM1_CH2/PA9 (power), 31 USART1_RX/TIM1_CH3/PA10 (power), 32 USART1_CTS/CAN_RX/TIM1_CH4/USB_DM(D-)/PA11 (power), 33 USART1_RTS/CANTX/TIM1_ETR/USB_DP(D+)/PA12 (power), 34 SWDIO/JTMS[PA13] (power), 35 VSS_2 (power), 36 VDD_2 (power), 37 JTCK/SWCLK[PA14] (power), 38 [SPI1_NSS/TIM2_CH1_ETR/PA15]/JTDI (power), 39 [SPI1_SCK/PB3/TIM2_CH2/TRACESWO]/JTDO (power), 40 [TIM3_CH2/SPI1_MISO/PB4]/JNRST (power), 41 [SPI1_MOSI/TIM3_CH2]I2C1_SMBAI/PB5 (power), 42 [USART1_TX]TIM4_CH1/I2C1_SCL/PB6 (power), 43 USART1_RX]TIM4_CH2/I2C1_SDA/PB7 (power), 44 BOOT0 (power), 45 [I2C1_SCL/CANRX]TIM4_CH3/PB8 (power), 46 [I2C1_SDA/CANTX]TIM4_CH4/PB9 (power), 47 VSS_3 (power), 48 VDD_3 (power)

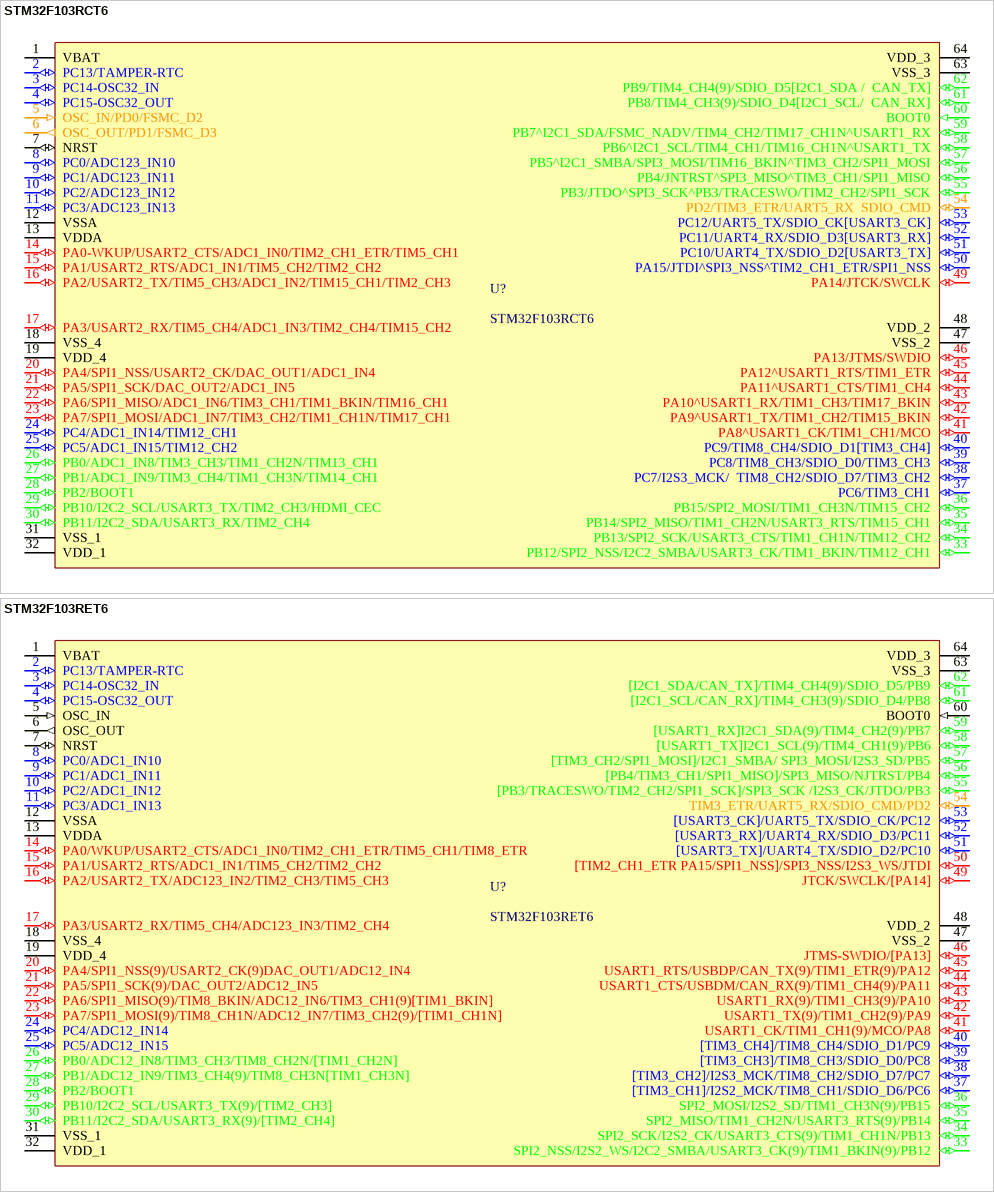
[diagram p3: symbols STM32F103RCT6 to STM32F103RET6]

## STM32F103RCT6
designator U?
Mounting_Type: Surface_Mount; SAPO_CODE: 530750; SAPO_NAME: STM32F103RCT6 LQFP-64; Value: STM32F103RCT6 LQFP64; ComponentLink1Description: Datasheet; ComponentLink1URL: https://www.st.com/resource/en/datasheet/stm32f103c8.pdf; Price: 60000; ComponentLink2Description: linhkienviet; ComponentLink2URL: http://linhkienviet.vn/stm32f103rct6-lqfp-64
footprint LQFP-64
pins: 1 VBAT (power), 2 PC13/TAMPER-RTC (io), 3 PC14-OSC32_IN (io), 4 PC15-OSC32_OUT (io), 5 OSC_IN/PD0/FSMC_D2 (in), 6 OSC_OUT/PD1/FSMC_D3 (out), 7 NRST (io), 8 PC0/ADC123_IN10 (io), 9 PC1/ADC123_IN11 (io), 10 PC2/ADC123_IN12 (io), 11 PC3/ADC123_IN13 (io), 12 VSSA (power), 13 VDDA (power), 14 PA0-WKUP/USART2_CTS/ADC1_IN0/TIM2_CH1_ETR/TIM5_CH1 (io), 15 PA1/USART2_RTS/ADC1_IN1/TIM5_CH2/TIM2_CH2 (io), 16 PA2/USART2_TX/TIM5_CH3/ADC1_IN2/TIM15_CH1/TIM2_CH3 (io), 17 PA3/USART2_RX/TIM5_CH4/ADC1_IN3/TIM2_CH4/TIM15_CH2 (io), 18 VSS_4 (power), 19 VDD_4 (power), 20 PA4/SPI1_NSS/USART2_CK/DAC_OUT1/ADC1_IN4 (io), 21 PA5/SPI1_SCK/DAC_OUT2/ADC1_IN5 (io), 22 PA6/SPI1_MISO/ADC1_IN6/TIM3_CH1/TIM1_BKIN/TIM16_CH1 (io), 23 PA7/SPI1_MOSI/ADC1_IN7/TIM3_CH2/TIM1_CH1N/TIM17_CH1 (io), 24 PC4/ADC1_IN14/TIM12_CH1 (io), 25 PC5/ADC1_IN15/TIM12_CH2 (io), 26 PB0/ADC1_IN8/TIM3_CH3/TIM1_CH2N/TIM13_CH1 (io), 27 PB1/ADC1_IN9/TIM3_CH4/TIM1_CH3N/TIM14_CH1 (io), 28 PB2/BOOT1 (io), 29 PB10/I2C2_SCL/USART3_TX/TIM2_CH3/HDMI_CEC (io), 30 PB11/I2C2_SDA/USART3_RX/TIM2_CH4 (io), 31 VSS_1 (power), 32 VDD_1 (power), 33 PB12/SPI2_NSS/I2C2_SMBA/USART3_CK/TIM1_BKIN/TIM12_CH1 (io), 34 PB13/SPI2_SCK/USART3_CTS/TIM1_CH1N/TIM12_CH2 (io), 35 PB14/SPI2_MISO/TIM1_CH2N/USART3_RTS/TIM15_CH1 (io), 36 PB15/SPI2_MOSI/TIM1_CH3N/TIM15_CH2 (io), 37 PC6/TIM3_CH1 (io), 38 PC7/I2S3_MCK/  TIM8_CH2/SDIO_D7/TIM3_CH2 (io), 39 PC8/TIM8_CH3/SDIO_D0/TIM3_CH3 (io), 40 PC9/TIM8_CH4/SDIO_D1[TIM3_CH4] (io), 41 PA8^USART1_CK/TIM1_CH1/MCO (io), 42 PA9^USART1_TX/TIM1_CH2/TIM15_BKIN (io), 43 PA10^USART1_RX/TIM1_CH3/TIM17_BKIN (io), 44 PA11^USART1_CTS/TIM1_CH4 (io), 45 PA12^USART1_RTS/TIM1_ETR (io), 46 PA13/JTMS/SWDIO (io), 47 VSS_2 (power), 48 VDD_2 (power), 49 PA14/JTCK/SWCLK (io), 50 PA15/JTDI^SPI3_NSS^TIM2_CH1_ETR/SPI1_NSS (io), 51 PC10/UART4_TX/SDIO_D2[USART3_TX] (io), 52 PC11/UART4_RX/SDIO_D3[USART3_RX] (io), 53 PC12/UART5_TX/SDIO_CK[USART3_CK] (io), 54 PD2/TIM3_ETR/UART5_RX  SDIO_CMD (io), 55 PB3/JTDO^SPI3_SCK^PB3/TRACESWO/TIM2_CH2/SPI1_SCK (io), 56 PB4/JNTRST^SPI3_MISO^TIM3_CH1/SPI1_MISO (io), 57 PB5^I2C1_SMBA/SPI3_MOSI/TIM16_BKIN^TIM3_CH2/SPI1_MOSI (io), 58 PB6^I2C1_SCL/TIM4_CH1/TIM16_CH1N^USART1_TX (io), 59 PB7^I2C1_SDA/FSMC_NADV/TIM4_CH2/TIM17_CH1N^USART1_RX (io), 60 BOOT0 (in), 61 PB8/TIM4_CH3(9)/SDIO_D4[I2C1_SCL/  CAN_RX] (io), 62 PB9/TIM4_CH4(9)/SDIO_D5[I2C1_SDA /  CAN_TX] (io), 63 VSS_3 (power), 64 VDD_3 (power)

## STM32F103RET6
designator U?
Mounting_Type: Surface_Mount; SAPO_CODE: 530750; SAPO_NAME: STM32F103RCT6 LQFP-64; Value: STM32F103RET6; Price: 50000; ComponentLink1Description: linhkienviet; ComponentLink1URL: http://linhkienviet.vn/stm32f103ret6-lqfp64-512kb; ComponentLink2Description: Datasheet; ComponentLink2URL: https://www.st.com/resource/en/datasheet/cd00191185.pdf
footprint LQFP-64
pins: 1 VBAT (power), 2 PC13/TAMPER-RTC (io), 3 PC14-OSC32_IN (io), 4 PC15-OSC32_OUT (io), 5 OSC_IN (in), 6 OSC_OUT (out), 7 NRST (io), 8 PC0/ADC1_IN10 (io), 9 PC1/ADC1_IN11 (io), 10 PC2/ADC1_IN12 (io), 11 PC3/ADC1_IN13 (io), 12 VSSA (power), 13 VDDA (power), 14 PA0/WKUP/USART2_CTS/ADC1_IN0/TIM2_CH1_ETR/TIM5_CH1/TIM8_ETR (io), 15 PA1/USART2_RTS/ADC1_IN1/TIM5_CH2/TIM2_CH2 (io), 16 PA2/USART2_TX/ADC123_IN2/TIM2_CH3/TIM5_CH3 (io), 17 PA3/USART2_RX/TIM5_CH4/ADC123_IN3/TIM2_CH4 (io), 18 VSS_4 (power), 19 VDD_4 (power), 20 PA4/SPI1_NSS(9)/USART2_CK(9)DAC_OUT1/ADC12_IN4 (io), 21 PA5/SPI1_SCK(9)/DAC_OUT2/ADC12_IN5 (io), 22 PA6/SPI1_MISO(9)/TIM8_BKIN/ADC12_IN6/TIM3_CH1(9)[TIM1_BKIN] (io), 23 PA7/SPI1_MOSI(9)/TIM8_CH1N/ADC12_IN7/TIM3_CH2(9)/[TIM1_CH1N] (io), 24 PC4/ADC12_IN14 (io), 25 PC5/ADC12_IN15 (io), 26 PB0/ADC12_IN8/TIM3_CH3/TIM8_CH2N/[TIM1_CH2N] (io), 27 PB1/ADC12_IN9/TIM3_CH4(9)/TIM8_CH3N[TIM1_CH3N] (io), 28 PB2/BOOT1 (io), 29 PB10/I2C2_SCL/USART3_TX(9)/[TIM2_CH3] (io), 30 PB11/I2C2_SDA/USART3_RX(9)/[TIM2_CH4] (io), 31 VSS_1 (power), 32 VDD_1 (power), 33 SPI2_NSS/I2S2_WS/I2C2_SMBA/USART3_CK(9)/TIM1_BKIN(9)/PB12 (io), 34 SPI2_SCK/I2S2_CK/USART3_CTS(9)/TIM1_CH1N/PB13 (io), 35 SPI2_MISO/TIM1_CH2N/USART3_RTS(9)/PB14 (io), 36 SPI2_MOSI/I2S2_SD/TIM1_CH3N(9)/PB15 (io), 37 [TIM3_CH1]/I2S2_MCK/TIM8_CH1/SDIO_D6/PC6 (io), 38 [TIM3_CH2]/I2S3_MCK/TIM8_CH2/SDIO_D7/PC7 (io), 39 [TIM3_CH3]/TIM8_CH3/SDIO_D0/PC8 (io), 40 [TIM3_CH4]/TIM8_CH4/SDIO_D1/PC9 (io), 41 USART1_CK/TIM1_CH1(9)/MCO/PA8 (io), 42 USART1_TX(9)/TIM1_CH2(9)/PA9 (io), 43 USART1_RX(9)/TIM1_CH3(9)/PA10 (io), 44 USART1_CTS/USBDM/CAN_RX(9)/TIM1_CH4(9)/PA11 (io), 45 USART1_RTS/USBDP/CAN_TX(9)/TIM1_ETR(9)/PA12 (io), 46 JTMS-SWDIO/[PA13] (io), 47 VSS_2 (power), 48 VDD_2 (power), 49 JTCK/SWCLK/[PA14] (io), 50 [TIM2_CH1_ETR PA15/SPI1_NSS]/SPI3_NSS/I2S3_WS/JTDI (io), 51 [USART3_TX]/UART4_TX/SDIO_D2/PC10 (io), 52 [USART3_RX]/UART4_RX/SDIO_D3/PC11 (io), 53 [USART3_CK]/UART5_TX/SDIO_CK/PC12 (io), 54 TIM3_ETR/UART5_RX/SDIO_CMD/PD2 (io), 55 [PB3/TRACESWO/TIM2_CH2/SPI1_SCK]/SPI3_SCK /I2S3_CK/JTDO/PB3 (io), 56 [PB4/TIM3_CH1/SPI1_MISO]/SPI3_MISO/NJTRST/PB4 (io), 57 [TIM3_CH2/SPI1_MOSI]/I2C1_SMBA/ SPI3_MOSI/I2S3_SD/PB5 (io), 58 [USART1_TX]I2C1_SCL(9)/TIM4_CH1(9)/PB6 (io), 59 [USART1_RX]I2C1_SDA(9)/TIM4_CH2(9)/PB7 (io), 60 BOOT0 (in), 61 [I2C1_SCL/CAN_RX]/TIM4_CH3(9)/SDIO_D4/PB8 (io), 62 [I2C1_SDA/CAN_TX]/TIM4_CH4(9)/SDIO_D5/PB9 (io), 63 VSS_3 (power), 64 VDD_3 (power)

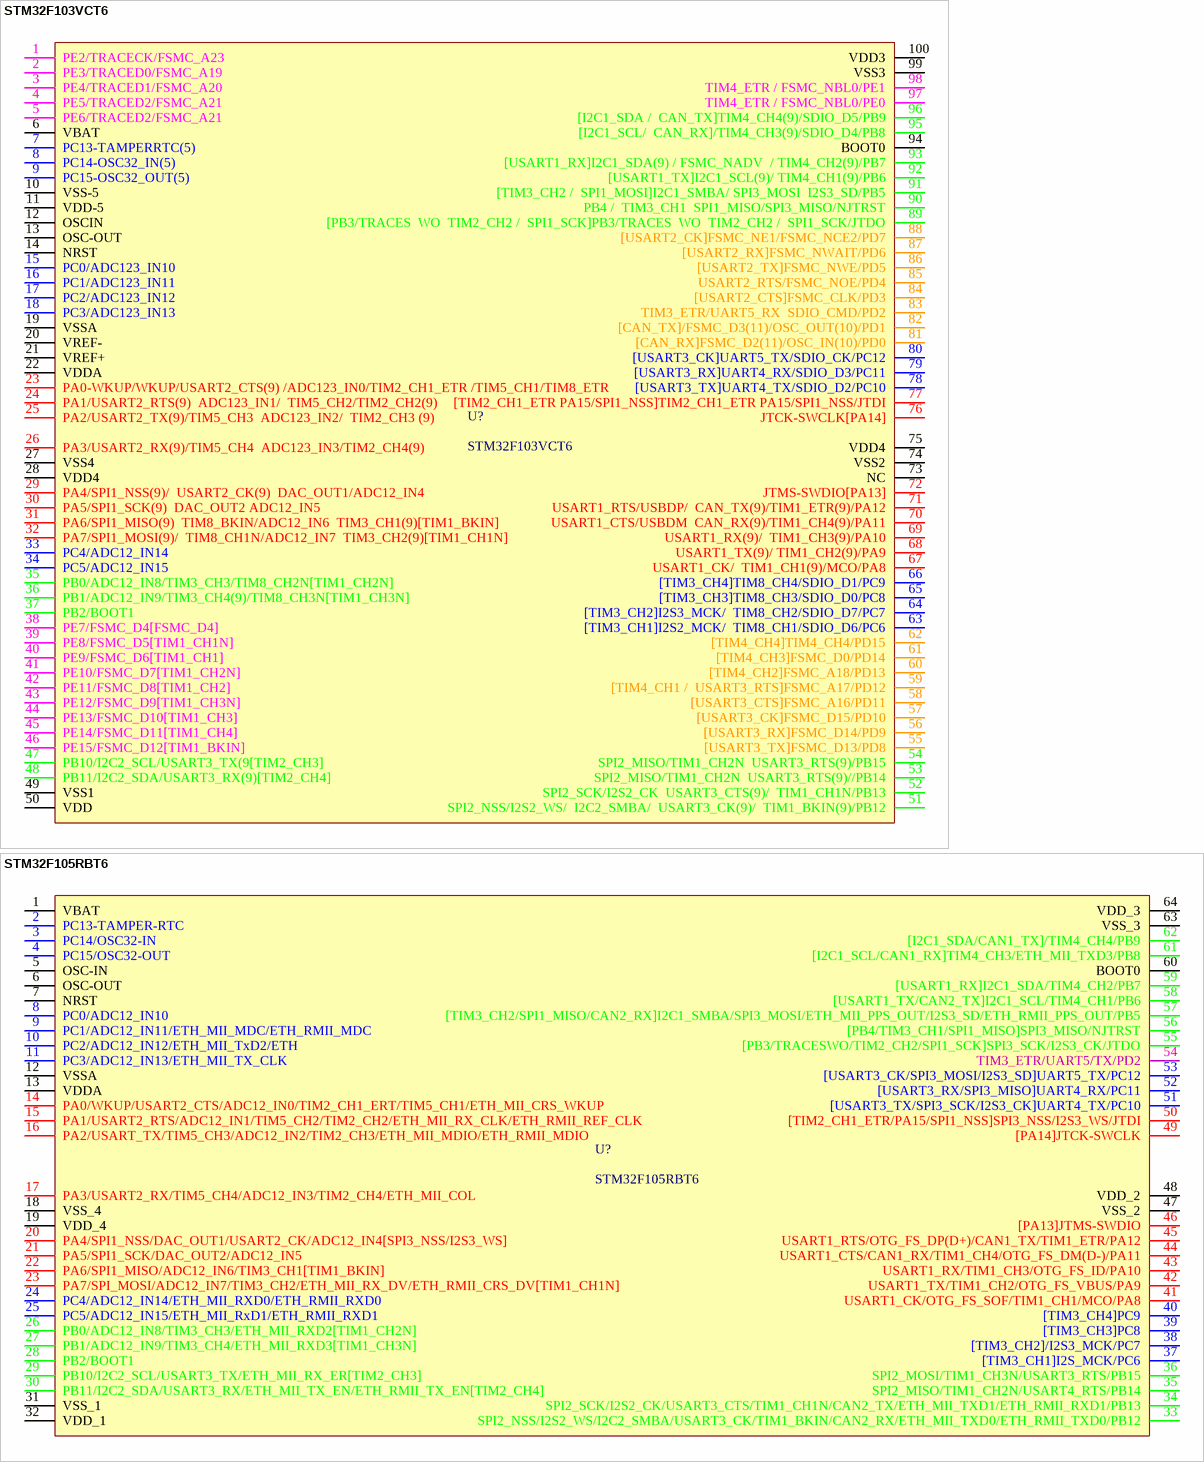
[diagram p4: symbols STM32F103VCT6 to STM32F105RBT6]

## STM32F103VCT6
designator U?
Mounting_Type: Surface_Mount; Value: STM32F103VCT6 LQFP100; Price: 95000; ComponentLink1Description: linhkienviet; ComponentLink1URL: linhkienviet.vn; ComponentLink2Description: Datasheet; ComponentLink2URL: https://www.st.com/resource/en/datasheet/cd00191185.pdf; ComponentLink3Description: banlinhkien.vn; ComponentLink3URL: https://banlinhkien.vn/goods-1240-stm32f103vet6-lqfp100.html
footprint LQFP-100 (TSQFP, 100-Leads, Body 14.00x14.00mm, Pitch 0.50mm, IPC Medium Density)
pins: 1 PE2/TRACECK/FSMC_A23, 2 PE3/TRACED0/FSMC_A19, 3 PE4/TRACED1/FSMC_A20, 4 PE5/TRACED2/FSMC_A21, 5 PE6/TRACED2/FSMC_A21, 6 VBAT, 7 PC13-TAMPERRTC(5), 8 PC14-OSC32_IN(5), 9 PC15-OSC32_OUT(5), 10 VSS-5, 11 VDD-5, 12 OSCIN, 13 OSC-OUT, 14 NRST, 15 PC0/ADC123_IN10, 16 PC1/ADC123_IN11, 17 PC2/ADC123_IN12, 18 PC3/ADC123_IN13, 19 VSSA, 20 VREF-, 21 VREF+, 22 VDDA, 23 PA0-WKUP/WKUP/USART2_CTS(9) /ADC123_IN0/TIM2_CH1_ETR /TIM5_CH1/TIM8_ETR, 24 PA1/USART2_RTS(9)  ADC123_IN1/  TIM5_CH2/TIM2_CH2(9), 25 PA2/USART2_TX(9)/TIM5_CH3  ADC123_IN2/  TIM2_CH3 (9), 26 PA3/USART2_RX(9)/TIM5_CH4  ADC123_IN3/TIM2_CH4(9), 27 VSS4, 28 VDD4, 29 PA4/SPI1_NSS(9)/  USART2_CK(9)  DAC_OUT1/ADC12_IN4, 30 PA5/SPI1_SCK(9)  DAC_OUT2 ADC12_IN5, 31 PA6/SPI1_MISO(9)  TIM8_BKIN/ADC12_IN6  TIM3_CH1(9)[TIM1_BKIN], 32 PA7/SPI1_MOSI(9)/  TIM8_CH1N/ADC12_IN7  TIM3_CH2(9)[TIM1_CH1N], 33 PC4/ADC12_IN14, 34 PC5/ADC12_IN15, 35 PB0/ADC12_IN8/TIM3_CH3/TIM8_CH2N[TIM1_CH2N], 36 PB1/ADC12_IN9/TIM3_CH4(9)/TIM8_CH3N[TIM1_CH3N], 37 PB2/BOOT1, 38 PE7/FSMC_D4[FSMC_D4], 39 PE8/FSMC_D5[TIM1_CH1N], 40 PE9/FSMC_D6[TIM1_CH1], 41 PE10/FSMC_D7[TIM1_CH2N], 42 PE11/FSMC_D8[TIM1_CH2], 43 PE12/FSMC_D9[TIM1_CH3N], 44 PE13/FSMC_D10[TIM1_CH3], 45 PE14/FSMC_D11[TIM1_CH4], 46 PE15/FSMC_D12[TIM1_BKIN], 47 PB10/I2C2_SCL/USART3_TX(9[TIM2_CH3], 48 PB11/I2C2_SDA/USART3_RX(9)[TIM2_CH4], 49 VSS1, 50 VDD, 51 SPI2_NSS/I2S2_WS/  I2C2_SMBA/  USART3_CK(9)/  TIM1_BKIN(9)/PB12, 52 SPI2_SCK/I2S2_CK  USART3_CTS(9)/  TIM1_CH1N/PB13, 53 SPI2_MISO/TIM1_CH2N  USART3_RTS(9)//PB14, 54 SPI2_MISO/TIM1_CH2N  USART3_RTS(9)/PB15, 55 [USART3_TX]FSMC_D13/PD8, 56 [USART3_RX]FSMC_D14/PD9, 57 [USART3_CK]FSMC_D15/PD10, 58 [USART3_CTS]FSMC_A16/PD11, 59 [TIM4_CH1 /  USART3_RTS]FSMC_A17/PD12, 60 [TIM4_CH2]FSMC_A18/PD13, 61 [TIM4_CH3]FSMC_D0/PD14, 62 [TIM4_CH4]TIM4_CH4/PD15, 63 [TIM3_CH1]I2S2_MCK/  TIM8_CH1/SDIO_D6/PC6, 64 [TIM3_CH2]I2S3_MCK/  TIM8_CH2/SDIO_D7/PC7, 65 [TIM3_CH3]TIM8_CH3/SDIO_D0/PC8, 66 [TIM3_CH4]TIM8_CH4/SDIO_D1/PC9, 67 USART1_CK/  TIM1_CH1(9)/MCO/PA8, 68 USART1_TX(9)/ TIM1_CH2(9)/PA9, 69 USART1_RX(9)/  TIM1_CH3(9)/PA10, 70 USART1_CTS/USBDM  CAN_RX(9)/TIM1_CH4(9)/PA11, 71 USART1_RTS/USBDP/  CAN_TX(9)/TIM1_ETR(9)/PA12, 72 JTMS-SWDIO[PA13], 73 NC, 74 VSS2, 75 VDD4, 76 JTCK-SWCLK[PA14], 77 [TIM2_CH1_ETR PA15/SPI1_NSS]TIM2_CH1_ETR PA15/SPI1_NSS/JTDI, 78 [USART3_TX]UART4_TX/SDIO_D2/PC10, 79 [USART3_RX]UART4_RX/SDIO_D3/PC11, 80 [USART3_CK]UART5_TX/SDIO_CK/PC12, 81 [CAN_RX]FSMC_D2(11)/OSC_IN(10)/PD0, 82 [CAN_TX]/FSMC_D3(11)/OSC_OUT(10)/PD1, 83 TIM3_ETR/UART5_RX  SDIO_CMD/PD2, 84 [USART2_CTS]FSMC_CLK/PD3, 85 USART2_RTS/FSMC_NOE/PD4, 86 [USART2_TX]FSMC_NWE/PD5, 87 [USART2_RX]FSMC_NWAIT/PD6, 88 [USART2_CK]FSMC_NE1/FSMC_NCE2/PD7, 89 [PB3/TRACES  WO  TIM2_CH2 /  SPI1_SCK]PB3/TRACES  WO  TIM2_CH2 /  SPI1_SCK/JTDO, 90 PB4 /  TIM3_CH1  SPI1_MISO/SPI3_MISO/NJTRST, 91 [TIM3_CH2 /  SPI1_MOSI]I2C1_SMBA/ SPI3_MOSI  I2S3_SD/PB5, 92 [USART1_TX]I2C1_SCL(9)/ TIM4_CH1(9)/PB6, 93 [USART1_RX]I2C1_SDA(9) / FSMC_NADV  / TIM4_CH2(9)/PB7, 94 BOOT0, 95 [I2C1_SCL/  CAN_RX]/TIM4_CH3(9)/SDIO_D4/PB8, 96 [I2C1_SDA /  CAN_TX]TIM4_CH4(9)/SDIO_D5/PB9, 97 TIM4_ETR / FSMC_NBL0/PE0, 98 TIM4_ETR / FSMC_NBL0/PE1, 99 VSS3, 100 VDD3

## STM32F105RBT6
designator U?
Mounting_Type: Surface_Mount; SAPO_CODE: 880506; SAPO_NAME: STM32F105RBT6-USB OTG FS-LQFP64-128Kbytes Flash-64Kbytes RAM; Datasheet: https://www.st.com/resource/en/datasheet/cd00220364.pdf; Value: STM32F105RBT6
footprint LQFP-64
pins: 1 VBAT, 2 PC13-TAMPER-RTC, 3 PC14/OSC32-IN, 4 PC15/OSC32-OUT, 5 OSC-IN, 6 OSC-OUT, 7 NRST, 8 PC0/ADC12_IN10, 9 PC1/ADC12_IN11/ETH_MII_MDC/ETH_RMII_MDC, 10 PC2/ADC12_IN12/ETH_MII_TxD2/ETH, 11 PC3/ADC12_IN13/ETH_MII_TX_CLK, 12 VSSA, 13 VDDA, 14 PA0/WKUP/USART2_CTS/ADC12_IN0/TIM2_CH1_ERT/TIM5_CH1/ETH_MII_CRS_WKUP, 15 PA1/USART2_RTS/ADC12_IN1/TIM5_CH2/TIM2_CH2/ETH_MII_RX_CLK/ETH_RMII_REF_CLK, 16 PA2/USART_TX/TIM5_CH3/ADC12_IN2/TIM2_CH3/ETH_MII_MDIO/ETH_RMII_MDIO, 17 PA3/USART2_RX/TIM5_CH4/ADC12_IN3/TIM2_CH4/ETH_MII_COL, 18 VSS_4, 19 VDD_4, 20 PA4/SPI1_NSS/DAC_OUT1/USART2_CK/ADC12_IN4[SPI3_NSS/I2S3_WS], 21 PA5/SPI1_SCK/DAC_OUT2/ADC12_IN5, 22 PA6/SPI1_MISO/ADC12_IN6/TIM3_CH1[TIM1_BKIN], 23 PA7/SPI_MOSI/ADC12_IN7/TIM3_CH2/ETH_MII_RX_DV/ETH_RMII_CRS_DV[TIM1_CH1N], 24 PC4/ADC12_IN14/ETH_MII_RXD0/ETH_RMII_RXD0, 25 PC5/ADC12_IN15/ETH_MII_RxD1/ETH_RMII_RXD1, 26 PB0/ADC12_IN8/TIM3_CH3/ETH_MII_RXD2[TIM1_CH2N], 27 PB1/ADC12_IN9/TIM3_CH4/ETH_MII_RXD3[TIM1_CH3N], 28 PB2/BOOT1, 29 PB10/I2C2_SCL/USART3_TX/ETH_MII_RX_ER[TIM2_CH3], 30 PB11/I2C2_SDA/USART3_RX/ETH_MII_TX_EN/ETH_RMII_TX_EN[TIM2_CH4], 31 VSS_1, 32 VDD_1, 33 SPI2_NSS/I2S2_WS/I2C2_SMBA/USART3_CK/TIM1_BKIN/CAN2_RX/ETH_MII_TXD0/ETH_RMII_TXD0/PB12, 34 SPI2_SCK/I2S2_CK/USART3_CTS/TIM1_CH1N/CAN2_TX/ETH_MII_TXD1/ETH_RMII_RXD1/PB13, 35 SPI2_MISO/TIM1_CH2N/USART4_RTS/PB14, 36 SPI2_MOSI/TIM1_CH3N/USART3_RTS/PB15, 37 [TIM3_CH1]I2S_MCK/PC6, 38 [TIM3_CH2]/I2S3_MCK/PC7, 39 [TIM3_CH3]PC8, 40 [TIM3_CH4]PC9, 41 USART1_CK/OTG_FS_SOF/TIM1_CH1/MCO/PA8, 42 USART1_TX/TIM1_CH2/OTG_FS_VBUS/PA9, 43 USART1_RX/TIM1_CH3/OTG_FS_ID/PA10, 44 USART1_CTS/CAN1_RX/TIM1_CH4/OTG_FS_DM(D-)/PA11, 45 USART1_RTS/OTG_FS_DP(D+)/CAN1_TX/TIM1_ETR/PA12, 46 [PA13]JTMS-SWDIO, 47 VSS_2, 48 VDD_2, 49 [PA14]JTCK-SWCLK, 50 [TIM2_CH1_ETR/PA15/SPI1_NSS]SPI3_NSS/I2S3_WS/JTDI, 51 [USART3_TX/SPI3_SCK/I2S3_CK]UART4_TX/PC10, 52 [USART3_RX/SPI3_MISO]UART4_RX/PC11, 53 [USART3_CK/SPI3_MOSI/I2S3_SD]UART5_TX/PC12, 54 TIM3_ETR/UART5/TX/PD2, 55 [PB3/TRACESWO/TIM2_CH2/SPI1_SCK]SPI3_SCK/I2S3_CK/JTDO, 56 [PB4/TIM3_CH1/SPI1_MISO]SPI3_MISO/NJTRST, 57 [TIM3_CH2/SPI1_MISO/CAN2_RX]I2C1_SMBA/SPI3_MOSI/ETH_MII_PPS_OUT/I2S3_SD/ETH_RMII_PPS_OUT/PB5, 58 [USART1_TX/CAN2_TX]I2C1_SCL/TIM4_CH1/PB6, 59 [USART1_RX]I2C1_SDA/TIM4_CH2/PB7, 60 BOOT0, 61 [I2C1_SCL/CAN1_RX]TIM4_CH3/ETH_MII_TXD3/PB8, 62 [I2C1_SDA/CAN1_TX]/TIM4_CH4/PB9, 63 VSS_3, 64 VDD_3

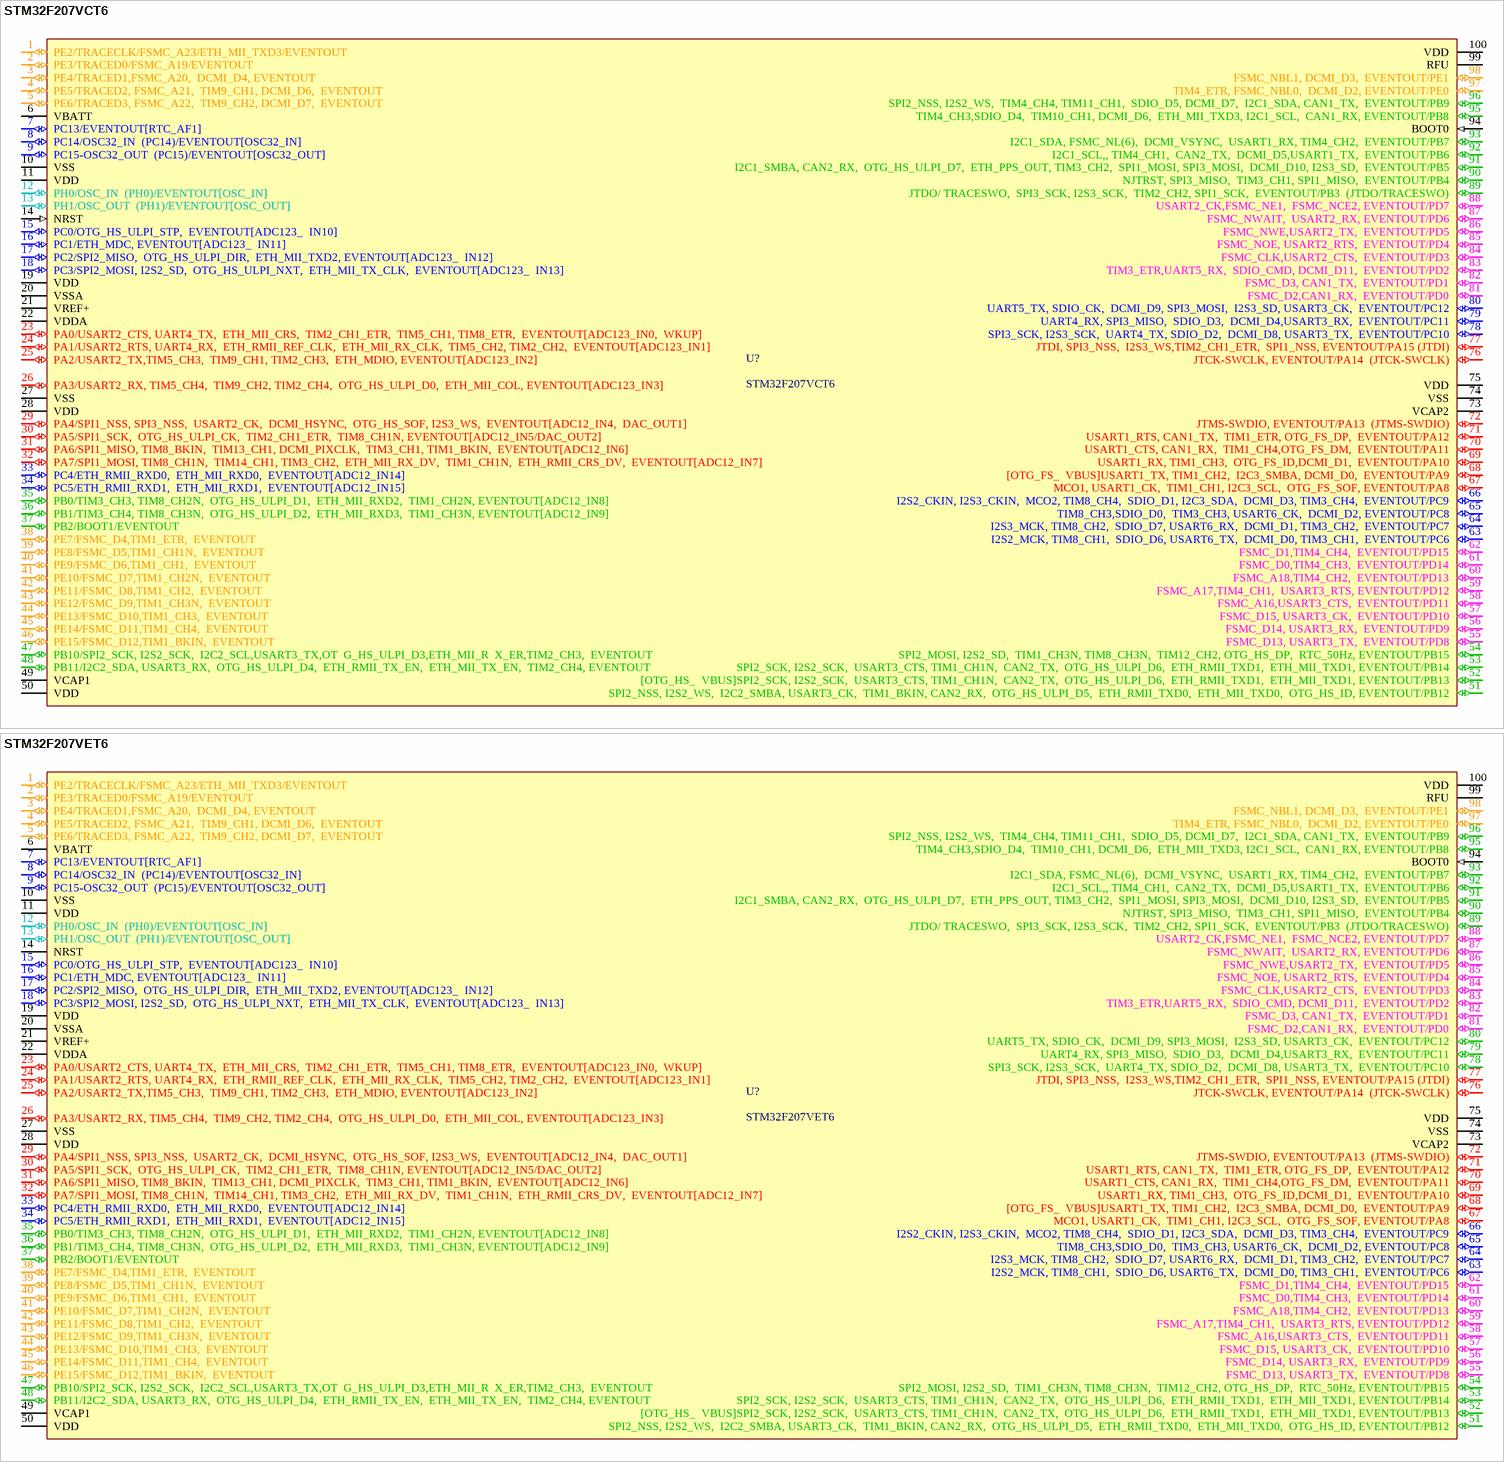
[diagram p5: symbols STM32F207VCT6 to STM32F207VET6]

## STM32F207VCT6
designator U?
Mounting_Type: Surface_Mount; SAPO_CODE: *; SAPO_NAME: *; Value: STM32F207VCT6
footprint LQFP-100 (TSQFP, 100-Leads, Body 14.00x14.00mm, Pitch 0.50mm, IPC Medium Density)
pins: 1 PE2/TRACECLK/FSMC_A23/ETH_MII_TXD3/EVENTOUT (io), 2 PE3/TRACED0/FSMC_A19/EVENTOUT (io), 3 PE4/TRACED1,FSMC_A20,  DCMI_D4, EVENTOUT (io), 4 PE5/TRACED2, FSMC_A21,  TIM9_CH1, DCMI_D6,  EVENTOUT (io), 5 PE6/TRACED3, FSMC_A22,  TIM9_CH2, DCMI_D7,  EVENTOUT (io), 6 VBATT (power), 7 PC13/EVENTOUT[RTC_AF1] (io), 8 PC14/OSC32_IN  (PC14)/EVENTOUT[OSC32_IN] (io), 9 PC15-OSC32_OUT  (PC15)/EVENTOUT[OSC32_OUT] (io), 10 VSS (power), 11 VDD (power), 12 PH0/OSC_IN  (PH0)/EVENTOUT[OSC_IN] (io), 13 PH1/OSC_OUT  (PH1)/EVENTOUT[OSC_OUT] (io), 14 NRST (in), 15 PC0/OTG_HS_ULPI_STP,  EVENTOUT[ADC123_  IN10] (io), 16 PC1/ETH_MDC, EVENTOUT[ADC123_  IN11] (io), 17 PC2/SPI2_MISO,  OTG_HS_ULPI_DIR,  ETH_MII_TXD2, EVENTOUT[ADC123_  IN12] (io), 18 PC3/SPI2_MOSI, I2S2_SD,  OTG_HS_ULPI_NXT,  ETH_MII_TX_CLK,  EVENTOUT[ADC123_  IN13] (io), 19 VDD (power), 20 VSSA (power), 21 VREF+, 22 VDDA (power), 23 PA0/USART2_CTS, UART4_TX,  ETH_MII_CRS,  TIM2_CH1_ETR,  TIM5_CH1, TIM8_ETR,  EVENTOUT[ADC123_IN0,  WKUP] (io), 24 PA1/USART2_RTS, UART4_RX,  ETH_RMII_REF_CLK,  ETH_MII_RX_CLK,  TIM5_CH2, TIM2_CH2,  EVENTOUT[ADC123_IN1] (io), 25 PA2/USART2_TX,TIM5_CH3,  TIM9_CH1, TIM2_CH3,  ETH_MDIO, EVENTOUT[ADC123_IN2] (io), 26 PA3/USART2_RX, TIM5_CH4,  TIM9_CH2, TIM2_CH4,  OTG_HS_ULPI_D0,  ETH_MII_COL, EVENTOUT[ADC123_IN3] (io), 27 VSS (power), 28 VDD (power), 29 PA4/SPI1_NSS, SPI3_NSS,  USART2_CK,  DCMI_HSYNC,  OTG_HS_SOF, I2S3_WS,  EVENTOUT[ADC12_IN4,  DAC_OUT1] (io), 30 PA5/SPI1_SCK,  OTG_HS_ULPI_CK,  TIM2_CH1_ETR,  TIM8_CH1N, EVENTOUT[ADC12_IN5/DAC_OUT2] (io), 31 PA6/SPI1_MISO, TIM8_BKIN,  TIM13_CH1, DCMI_PIXCLK,  TIM3_CH1, TIM1_BKIN,  EVENTOUT[ADC12_IN6] (io), 32 PA7/SPI1_MOSI, TIM8_CH1N,  TIM14_CH1, TIM3_CH2,  ETH_MII_RX_DV,  TIM1_CH1N,  ETH_RMII_CRS_DV,  EVENTOUT[ADC12_IN7] (io), 33 PC4/ETH_RMII_RXD0,  ETH_MII_RXD0,  EVENTOUT[ADC12_IN14] (io), 34 PC5/ETH_RMII_RXD1,  ETH_MII_RXD1,  EVENTOUT[ADC12_IN15] (io), 35 PB0/TIM3_CH3, TIM8_CH2N,  OTG_HS_ULPI_D1,  ETH_MII_RXD2,  TIM1_CH2N, EVENTOUT[ADC12_IN8] (io), 36 PB1/TIM3_CH4, TIM8_CH3N,  OTG_HS_ULPI_D2,  ETH_MII_RXD3,  TIM1_CH3N, EVENTOUT[ADC12_IN9] (io), 37 PB2/BOOT1/EVENTOUT (io), 38 PE7/FSMC_D4,TIM1_ETR,  EVENTOUT (io), 39 PE8/FSMC_D5,TIM1_CH1N,  EVENTOUT (io), 40 PE9/FSMC_D6,TIM1_CH1,  EVENTOUT (io), 41 PE10/FSMC_D7,TIM1_CH2N,  EVENTOUT (io), 42 PE11/FSMC_D8,TIM1_CH2,  EVENTOUT (io), 43 PE12/FSMC_D9,TIM1_CH3N,  EVENTOUT (io), 44 PE13/FSMC_D10,TIM1_CH3,  EVENTOUT (io), 45 PE14/FSMC_D11,TIM1_CH4,  EVENTOUT (io), 46 PE15/FSMC_D12,TIM1_BKIN,  EVENTOUT (io), 47 PB10/SPI2_SCK, I2S2_SCK,  I2C2_SCL,USART3_TX,OT  G_HS_ULPI_D3,ETH_MII_R  X_ER,TIM2_CH3,  EVENTOUT (io), 48 PB11/I2C2_SDA, USART3_RX,  OTG_HS_ULPI_D4,  ETH_RMII_TX_EN,  ETH_MII_TX_EN,  TIM2_CH4, EVENTOUT (io), 49 VCAP1, 50 VDD (power), 51 SPI2_NSS, I2S2_WS,  I2C2_SMBA, USART3_CK,  TIM1_BKIN, CAN2_RX,  OTG_HS_ULPI_D5,  ETH_RMII_TXD0,  ETH_MII_TXD0,  OTG_HS_ID, EVENTOUT/PB12 (io), 52 [OTG_HS_  VBUS]SPI2_SCK, I2S2_SCK,  USART3_CTS, TIM1_CH1N,  CAN2_TX,  OTG_HS_ULPI_D6,  ETH_RMII_TXD1,  ETH_MII_TXD1, EVENTOUT/PB13 (io), 53 SPI2_SCK, I2S2_SCK,  USART3_CTS, TIM1_CH1N,  CAN2_TX,  OTG_HS_ULPI_D6,  ETH_RMII_TXD1,  ETH_MII_TXD1, EVENTOUT/PB14 (io), 54 SPI2_MOSI, I2S2_SD,  TIM1_CH3N, TIM8_CH3N,  TIM12_CH2, OTG_HS_DP,  RTC_50Hz, EVENTOUT/PB15 (io), 55 FSMC_D13, USART3_TX,  EVENTOUT/PD8 (io), 56 FSMC_D14, USART3_RX,  EVENTOUT/PD9 (io), 57 FSMC_D15, USART3_CK,  EVENTOUT/PD10 (io), 58 FSMC_A16,USART3_CTS,  EVENTOUT/PD11 (io), 59 FSMC_A17,TIM4_CH1,  USART3_RTS, EVENTOUT/PD12 (io), 60 FSMC_A18,TIM4_CH2,  EVENTOUT/PD13 (io), 61 FSMC_D0,TIM4_CH3,  EVENTOUT/PD14 (io), 62 FSMC_D1,TIM4_CH4,  EVENTOUT/PD15 (io), 63 I2S2_MCK, TIM8_CH1,  SDIO_D6, USART6_TX,  DCMI_D0, TIM3_CH1,  EVENTOUT/PC6 (io), 64 I2S3_MCK, TIM8_CH2,  SDIO_D7, USART6_RX,  DCMI_D1, TIM3_CH2,  EVENTOUT/PC7 (io), 65 TIM8_CH3,SDIO_D0,  TIM3_CH3, USART6_CK,  DCMI_D2, EVENTOUT/PC8 (io), 66 I2S2_CKIN, I2S3_CKIN,  MCO2, TIM8_CH4,  SDIO_D1, I2C3_SDA,  DCMI_D3, TIM3_CH4,  EVENTOUT/PC9 (io), 67 MCO1, USART1_CK,  TIM1_CH1, I2C3_SCL,  OTG_FS_SOF, EVENTOUT/PA8 (io), 68 [OTG_FS_  VBUS]USART1_TX, TIM1_CH2,  I2C3_SMBA, DCMI_D0,  EVENTOUT/PA9 (io), 69 USART1_RX, TIM1_CH3,  OTG_FS_ID,DCMI_D1,  EVENTOUT/PA10 (io), 70 USART1_CTS, CAN1_RX,  TIM1_CH4,OTG_FS_DM,  EVENTOUT/PA11 (io), 71 USART1_RTS, CAN1_TX,  TIM1_ETR, OTG_FS_DP,  EVENTOUT/PA12 (io), 72 JTMS-SWDIO, EVENTOUT/PA13  (JTMS-SWDIO) (io), 73 VCAP2, 74 VSS (power), 75 VDD (power), 76 JTCK-SWCLK, EVENTOUT/PA14  (JTCK-SWCLK) (io), 77 JTDI, SPI3_NSS,  I2S3_WS,TIM2_CH1_ETR,  SPI1_NSS, EVENTOUT/PA15 (JTDI) (io), 78 SPI3_SCK, I2S3_SCK,  UART4_TX, SDIO_D2,  DCMI_D8, USART3_TX,  EVENTOUT/PC10 (io), 79 UART4_RX, SPI3_MISO,  SDIO_D3,  DCMI_D4,USART3_RX,  EVENTOUT/PC11 (io), 80 UART5_TX, SDIO_CK,  DCMI_D9, SPI3_MOSI,  I2S3_SD, USART3_CK,  EVENTOUT/PC12 (io), 81 FSMC_D2,CAN1_RX,  EVENTOUT/PD0 (io), 82 FSMC_D3, CAN1_TX,  EVENTOUT/PD1 (io), 83 TIM3_ETR,UART5_RX,  SDIO_CMD, DCMI_D11,  EVENTOUT/PD2 (io), 84 FSMC_CLK,USART2_CTS,  EVENTOUT/PD3 (io), 85 FSMC_NOE, USART2_RTS,  EVENTOUT/PD4 (io), 86 FSMC_NWE,USART2_TX,  EVENTOUT/PD5 (io), 87 FSMC_NWAIT,  USART2_RX, EVENTOUT/PD6 (io), 88 USART2_CK,FSMC_NE1,  FSMC_NCE2, EVENTOUT/PD7 (io), 89 JTDO/ TRACESWO,  SPI3_SCK, I2S3_SCK,  TIM2_CH2, SPI1_SCK,  EVENTOUT/PB3  (JTDO/TRACESWO) (io), 90 NJTRST, SPI3_MISO,  TIM3_CH1, SPI1_MISO,  EVENTOUT/PB4 (io), 91 I2C1_SMBA, CAN2_RX,  OTG_HS_ULPI_D7,  ETH_PPS_OUT, TIM3_CH2,  SPI1_MOSI, SPI3_MOSI,  DCMI_D10, I2S3_SD,  EVENTOUT/PB5 (io), 92 I2C1_SCL,, TIM4_CH1,  CAN2_TX,  DCMI_D5,USART1_TX,  EVENTOUT/PB6 (io), 93 I2C1_SDA, FSMC_NL(6),  DCMI_VSYNC,  USART1_RX, TIM4_CH2,  EVENTOUT/PB7 (io), 94 BOOT0 (in), 95 TIM4_CH3,SDIO_D4,  TIM10_CH1, DCMI_D6,  ETH_MII_TXD3, I2C1_SCL,  CAN1_RX, EVENTOUT/PB8 (io), 96 SPI2_NSS, I2S2_WS,  TIM4_CH4, TIM11_CH1,  SDIO_D5, DCMI_D7,  I2C1_SDA, CAN1_TX,  EVENTOUT/PB9 (io), 97 TIM4_ETR, FSMC_NBL0,  DCMI_D2, EVENTOUT/PE0 (io), 98 FSMC_NBL1, DCMI_D3,  EVENTOUT/PE1 (io), 99 RFU, 100 VDD (power)

## STM32F207VET6
designator U?
Mounting_Type: Surface_Mount; SAPO_CODE: 530850; SAPO_NAME: STM32F207VET6 LQFP100; Value: STM32F207VET6
footprint LQFP-100 (TSQFP, 100-Leads, Body 14.00x14.00mm, Pitch 0.50mm, IPC Medium Density)
pins: 1 PE2/TRACECLK/FSMC_A23/ETH_MII_TXD3/EVENTOUT (io), 2 PE3/TRACED0/FSMC_A19/EVENTOUT (io), 3 PE4/TRACED1,FSMC_A20,  DCMI_D4, EVENTOUT (io), 4 PE5/TRACED2, FSMC_A21,  TIM9_CH1, DCMI_D6,  EVENTOUT (io), 5 PE6/TRACED3, FSMC_A22,  TIM9_CH2, DCMI_D7,  EVENTOUT (io), 6 VBATT (power), 7 PC13/EVENTOUT[RTC_AF1] (io), 8 PC14/OSC32_IN  (PC14)/EVENTOUT[OSC32_IN] (io), 9 PC15-OSC32_OUT  (PC15)/EVENTOUT[OSC32_OUT] (io), 10 VSS (power), 11 VDD (power), 12 PH0/OSC_IN  (PH0)/EVENTOUT[OSC_IN] (io), 13 PH1/OSC_OUT  (PH1)/EVENTOUT[OSC_OUT] (io), 14 NRST, 15 PC0/OTG_HS_ULPI_STP,  EVENTOUT[ADC123_  IN10] (io), 16 PC1/ETH_MDC, EVENTOUT[ADC123_  IN11] (io), 17 PC2/SPI2_MISO,  OTG_HS_ULPI_DIR,  ETH_MII_TXD2, EVENTOUT[ADC123_  IN12] (io), 18 PC3/SPI2_MOSI, I2S2_SD,  OTG_HS_ULPI_NXT,  ETH_MII_TX_CLK,  EVENTOUT[ADC123_  IN13] (io), 19 VDD (power), 20 VSSA (power), 21 VREF+, 22 VDDA (power), 23 PA0/USART2_CTS, UART4_TX,  ETH_MII_CRS,  TIM2_CH1_ETR,  TIM5_CH1, TIM8_ETR,  EVENTOUT[ADC123_IN0,  WKUP] (io), 24 PA1/USART2_RTS, UART4_RX,  ETH_RMII_REF_CLK,  ETH_MII_RX_CLK,  TIM5_CH2, TIM2_CH2,  EVENTOUT[ADC123_IN1] (io), 25 PA2/USART2_TX,TIM5_CH3,  TIM9_CH1, TIM2_CH3,  ETH_MDIO, EVENTOUT[ADC123_IN2] (io), 26 PA3/USART2_RX, TIM5_CH4,  TIM9_CH2, TIM2_CH4,  OTG_HS_ULPI_D0,  ETH_MII_COL, EVENTOUT[ADC123_IN3] (io), 27 VSS (power), 28 VDD (power), 29 PA4/SPI1_NSS, SPI3_NSS,  USART2_CK,  DCMI_HSYNC,  OTG_HS_SOF, I2S3_WS,  EVENTOUT[ADC12_IN4,  DAC_OUT1] (io), 30 PA5/SPI1_SCK,  OTG_HS_ULPI_CK,  TIM2_CH1_ETR,  TIM8_CH1N, EVENTOUT[ADC12_IN5/DAC_OUT2] (io), 31 PA6/SPI1_MISO, TIM8_BKIN,  TIM13_CH1, DCMI_PIXCLK,  TIM3_CH1, TIM1_BKIN,  EVENTOUT[ADC12_IN6] (io), 32 PA7/SPI1_MOSI, TIM8_CH1N,  TIM14_CH1, TIM3_CH2,  ETH_MII_RX_DV,  TIM1_CH1N,  ETH_RMII_CRS_DV,  EVENTOUT[ADC12_IN7] (io), 33 PC4/ETH_RMII_RXD0,  ETH_MII_RXD0,  EVENTOUT[ADC12_IN14] (io), 34 PC5/ETH_RMII_RXD1,  ETH_MII_RXD1,  EVENTOUT[ADC12_IN15] (io), 35 PB0/TIM3_CH3, TIM8_CH2N,  OTG_HS_ULPI_D1,  ETH_MII_RXD2,  TIM1_CH2N, EVENTOUT[ADC12_IN8] (io), 36 PB1/TIM3_CH4, TIM8_CH3N,  OTG_HS_ULPI_D2,  ETH_MII_RXD3,  TIM1_CH3N, EVENTOUT[ADC12_IN9] (io), 37 PB2/BOOT1/EVENTOUT (io), 38 PE7/FSMC_D4,TIM1_ETR,  EVENTOUT (io), 39 PE8/FSMC_D5,TIM1_CH1N,  EVENTOUT (io), 40 PE9/FSMC_D6,TIM1_CH1,  EVENTOUT (io), 41 PE10/FSMC_D7,TIM1_CH2N,  EVENTOUT (io), 42 PE11/FSMC_D8,TIM1_CH2,  EVENTOUT (io), 43 PE12/FSMC_D9,TIM1_CH3N,  EVENTOUT (io), 44 PE13/FSMC_D10,TIM1_CH3,  EVENTOUT (io), 45 PE14/FSMC_D11,TIM1_CH4,  EVENTOUT (io), 46 PE15/FSMC_D12,TIM1_BKIN,  EVENTOUT (io), 47 PB10/SPI2_SCK, I2S2_SCK,  I2C2_SCL,USART3_TX,OT  G_HS_ULPI_D3,ETH_MII_R  X_ER,TIM2_CH3,  EVENTOUT (io), 48 PB11/I2C2_SDA, USART3_RX,  OTG_HS_ULPI_D4,  ETH_RMII_TX_EN,  ETH_MII_TX_EN,  TIM2_CH4, EVENTOUT (io), 49 VCAP1, 50 VDD (power), 51 SPI2_NSS, I2S2_WS,  I2C2_SMBA, USART3_CK,  TIM1_BKIN, CAN2_RX,  OTG_HS_ULPI_D5,  ETH_RMII_TXD0,  ETH_MII_TXD0,  OTG_HS_ID, EVENTOUT/PB12 (io), 52 [OTG_HS_  VBUS]SPI2_SCK, I2S2_SCK,  USART3_CTS, TIM1_CH1N,  CAN2_TX,  OTG_HS_ULPI_D6,  ETH_RMII_TXD1,  ETH_MII_TXD1, EVENTOUT/PB13 (io), 53 SPI2_SCK, I2S2_SCK,  USART3_CTS, TIM1_CH1N,  CAN2_TX,  OTG_HS_ULPI_D6,  ETH_RMII_TXD1,  ETH_MII_TXD1, EVENTOUT/PB14 (io), 54 SPI2_MOSI, I2S2_SD,  TIM1_CH3N, TIM8_CH3N,  TIM12_CH2, OTG_HS_DP,  RTC_50Hz, EVENTOUT/PB15 (io), 55 FSMC_D13, USART3_TX,  EVENTOUT/PD8 (io), 56 FSMC_D14, USART3_RX,  EVENTOUT/PD9 (io), 57 FSMC_D15, USART3_CK,  EVENTOUT/PD10 (io), 58 FSMC_A16,USART3_CTS,  EVENTOUT/PD11 (io), 59 FSMC_A17,TIM4_CH1,  USART3_RTS, EVENTOUT/PD12 (io), 60 FSMC_A18,TIM4_CH2,  EVENTOUT/PD13 (io), 61 FSMC_D0,TIM4_CH3,  EVENTOUT/PD14 (io), 62 FSMC_D1,TIM4_CH4,  EVENTOUT/PD15 (io), 63 I2S2_MCK, TIM8_CH1,  SDIO_D6, USART6_TX,  DCMI_D0, TIM3_CH1,  EVENTOUT/PC6 (io), 64 I2S3_MCK, TIM8_CH2,  SDIO_D7, USART6_RX,  DCMI_D1, TIM3_CH2,  EVENTOUT/PC7 (io), 65 TIM8_CH3,SDIO_D0,  TIM3_CH3, USART6_CK,  DCMI_D2, EVENTOUT/PC8 (io), 66 I2S2_CKIN, I2S3_CKIN,  MCO2, TIM8_CH4,  SDIO_D1, I2C3_SDA,  DCMI_D3, TIM3_CH4,  EVENTOUT/PC9 (io), 67 MCO1, USART1_CK,  TIM1_CH1, I2C3_SCL,  OTG_FS_SOF, EVENTOUT/PA8 (io), 68 [OTG_FS_  VBUS]USART1_TX, TIM1_CH2,  I2C3_SMBA, DCMI_D0,  EVENTOUT/PA9 (io), 69 USART1_RX, TIM1_CH3,  OTG_FS_ID,DCMI_D1,  EVENTOUT/PA10 (io), 70 USART1_CTS, CAN1_RX,  TIM1_CH4,OTG_FS_DM,  EVENTOUT/PA11 (io), 71 USART1_RTS, CAN1_TX,  TIM1_ETR, OTG_FS_DP,  EVENTOUT/PA12 (io), 72 JTMS-SWDIO, EVENTOUT/PA13  (JTMS-SWDIO) (io), 73 VCAP2, 74 VSS (power), 75 VDD (power), 76 JTCK-SWCLK, EVENTOUT/PA14  (JTCK-SWCLK) (io), 77 JTDI, SPI3_NSS,  I2S3_WS,TIM2_CH1_ETR,  SPI1_NSS, EVENTOUT/PA15 (JTDI) (io), 78 SPI3_SCK, I2S3_SCK,  UART4_TX, SDIO_D2,  DCMI_D8, USART3_TX,  EVENTOUT/PC10 (io), 79 UART4_RX, SPI3_MISO,  SDIO_D3,  DCMI_D4,USART3_RX,  EVENTOUT/PC11 (io), 80 UART5_TX, SDIO_CK,  DCMI_D9, SPI3_MOSI,  I2S3_SD, USART3_CK,  EVENTOUT/PC12 (io), 81 FSMC_D2,CAN1_RX,  EVENTOUT/PD0 (io), 82 FSMC_D3, CAN1_TX,  EVENTOUT/PD1 (io), 83 TIM3_ETR,UART5_RX,  SDIO_CMD, DCMI_D11,  EVENTOUT/PD2 (io), 84 FSMC_CLK,USART2_CTS,  EVENTOUT/PD3 (io), 85 FSMC_NOE, USART2_RTS,  EVENTOUT/PD4 (io), 86 FSMC_NWE,USART2_TX,  EVENTOUT/PD5 (io), 87 FSMC_NWAIT,  USART2_RX, EVENTOUT/PD6 (io), 88 USART2_CK,FSMC_NE1,  FSMC_NCE2, EVENTOUT/PD7 (io), 89 JTDO/ TRACESWO,  SPI3_SCK, I2S3_SCK,  TIM2_CH2, SPI1_SCK,  EVENTOUT/PB3  (JTDO/TRACESWO) (io), 90 NJTRST, SPI3_MISO,  TIM3_CH1, SPI1_MISO,  EVENTOUT/PB4 (io), 91 I2C1_SMBA, CAN2_RX,  OTG_HS_ULPI_D7,  ETH_PPS_OUT, TIM3_CH2,  SPI1_MOSI, SPI3_MOSI,  DCMI_D10, I2S3_SD,  EVENTOUT/PB5 (io), 92 I2C1_SCL,, TIM4_CH1,  CAN2_TX,  DCMI_D5,USART1_TX,  EVENTOUT/PB6 (io), 93 I2C1_SDA, FSMC_NL(6),  DCMI_VSYNC,  USART1_RX, TIM4_CH2,  EVENTOUT/PB7 (io), 94 BOOT0 (in), 95 TIM4_CH3,SDIO_D4,  TIM10_CH1, DCMI_D6,  ETH_MII_TXD3, I2C1_SCL,  CAN1_RX, EVENTOUT/PB8 (io), 96 SPI2_NSS, I2S2_WS,  TIM4_CH4, TIM11_CH1,  SDIO_D5, DCMI_D7,  I2C1_SDA, CAN1_TX,  EVENTOUT/PB9 (io), 97 TIM4_ETR, FSMC_NBL0,  DCMI_D2, EVENTOUT/PE0 (io), 98 FSMC_NBL1, DCMI_D3,  EVENTOUT/PE1 (io), 99 RFU, 100 VDD (power)

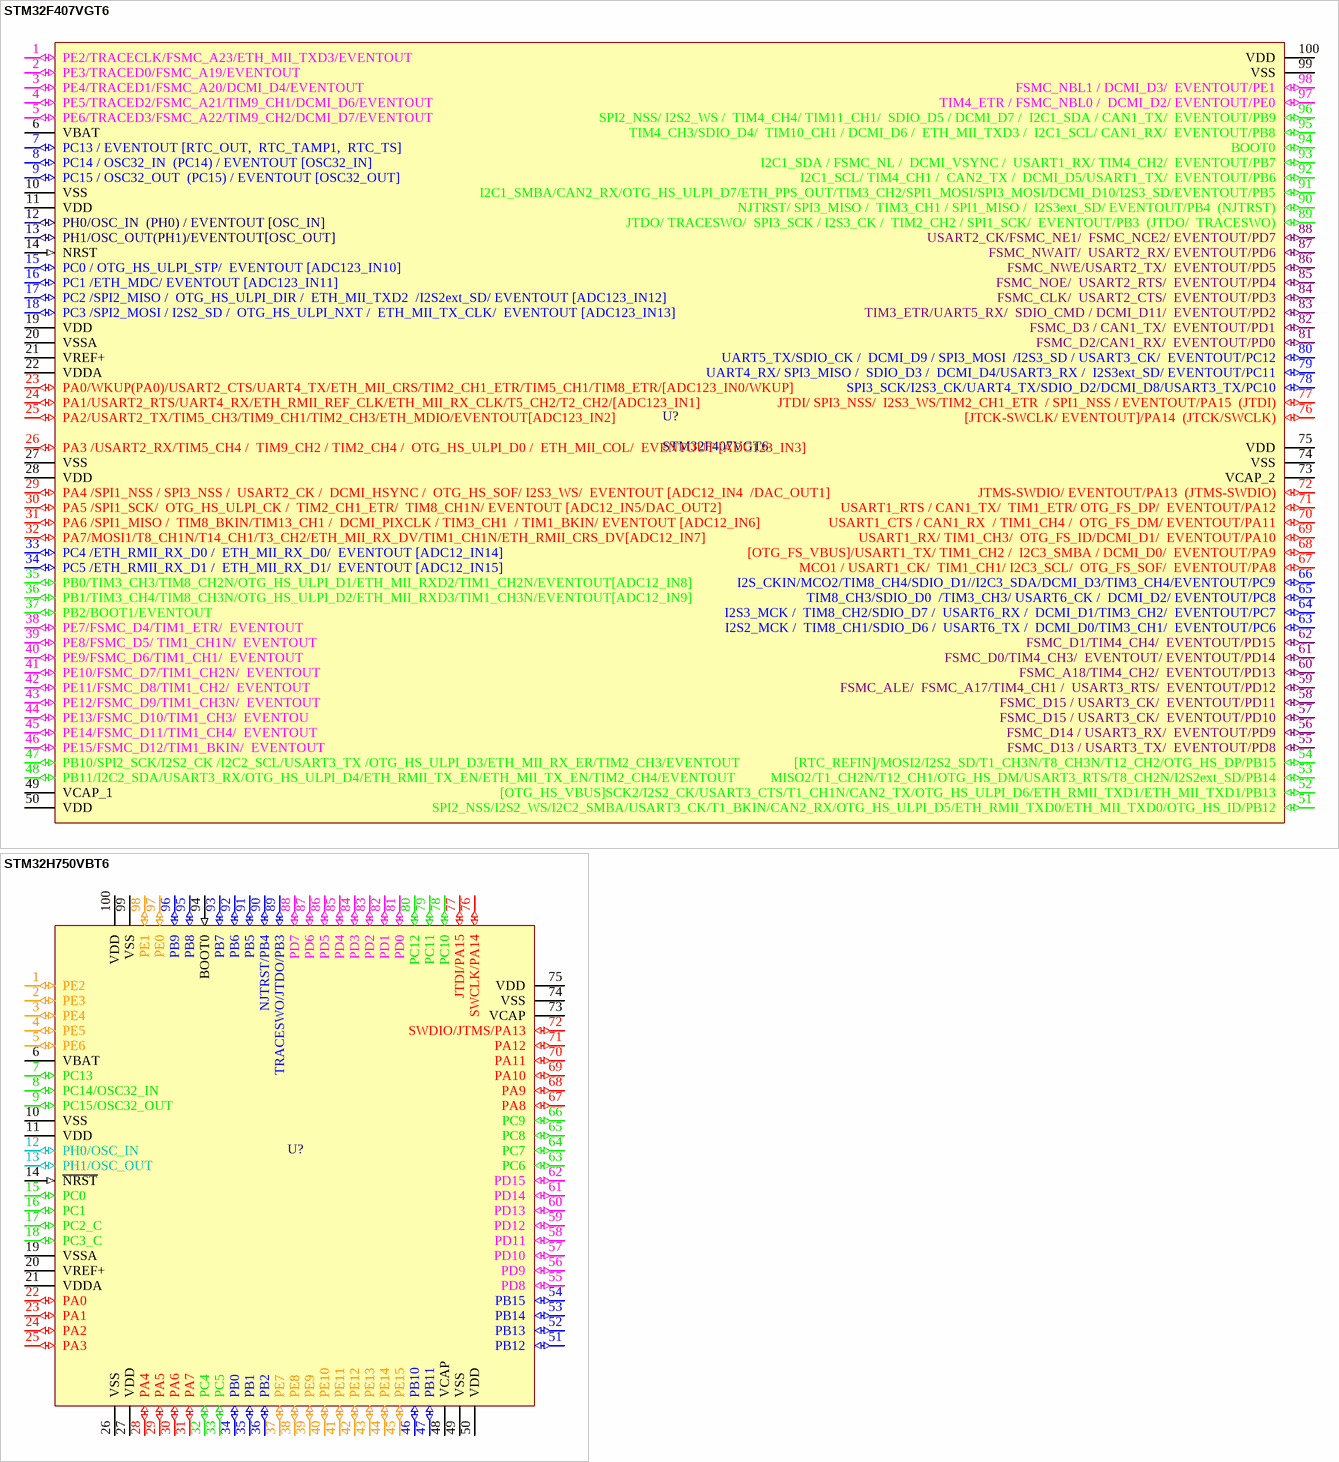
[diagram p6: symbols STM32F407VGT6 to STM32H750VBT6]